# Altium schematic symbol library MCU_ST_STM32L0.SchLib: 245 symbols (part 2 of 5)
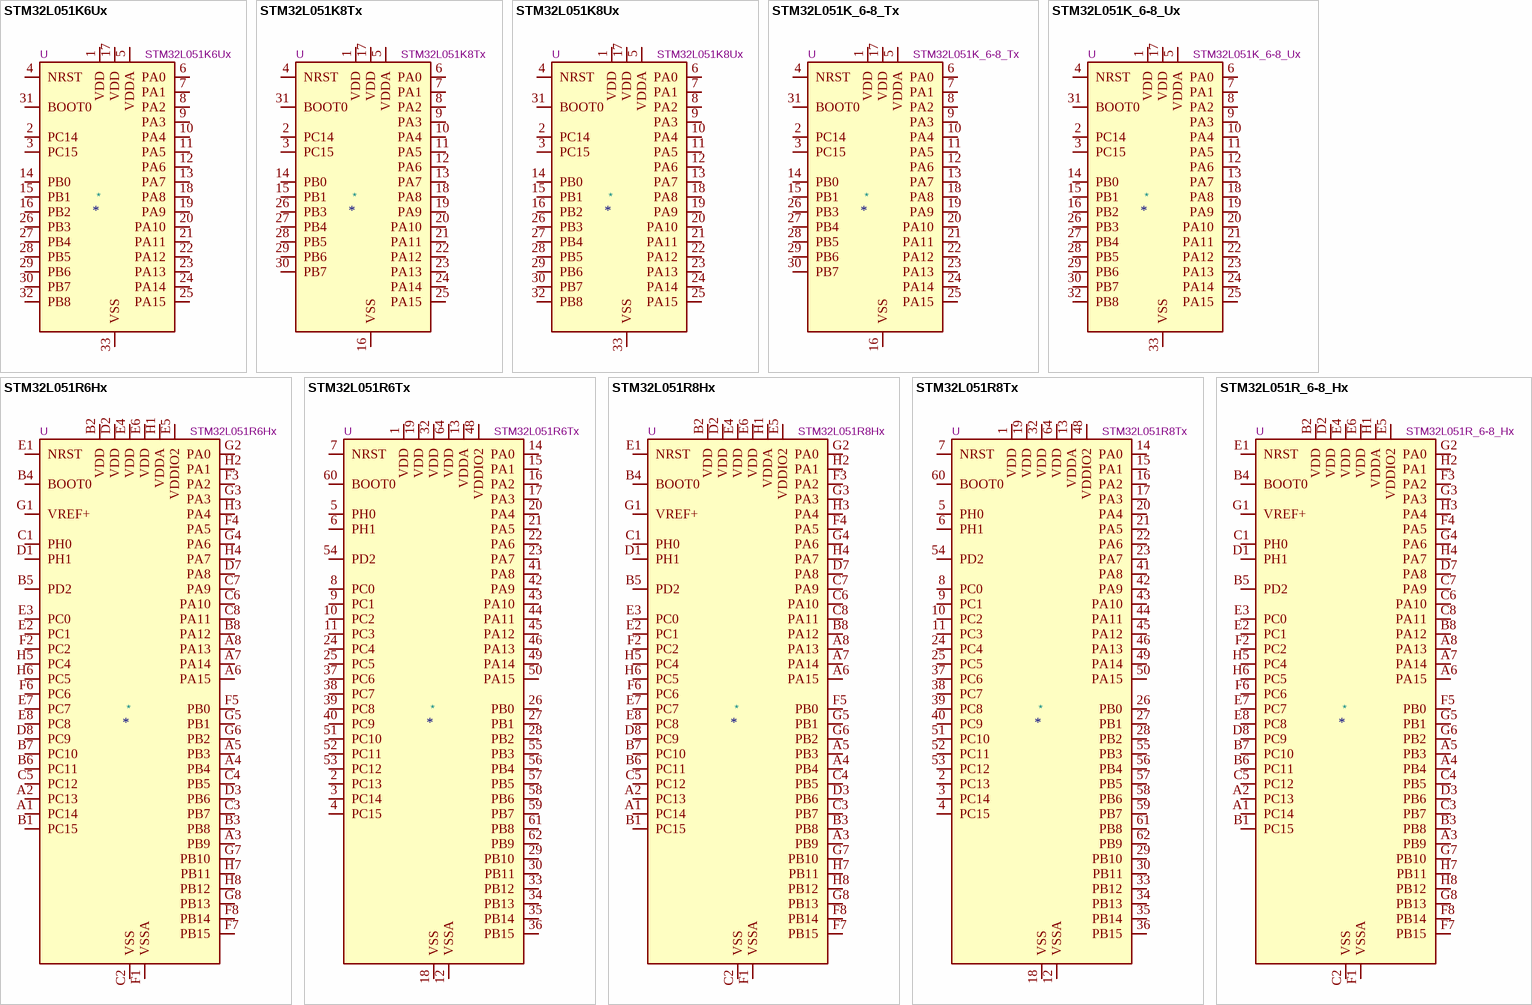
[diagram p23: symbols STM32L051K6Ux to STM32L051R_6-8_Hx]

## STM32L051K_6-8_Tx
designator *  value STM32L051K_6-8_Tx  Reference: U
ki_keywords: Arm Cortex-M0+ STM32L0 STM32L0x1; ki_description: STMicroelectronics Arm Cortex-M0+ MCU, 32-64KB flash, 8KB RAM, 32 MHz, 1.65-3.6V, 25 GPIO, LQFP32; ki_fp_filters: LQFP*7x7mm*P0.8mm*; Footprint: Package_QFP:LQFP-32_7x7mm_P0.8mm; Datasheet: https://www.st.com/resource/en/datasheet/stm32l051k6.pdf
pins: 1 VDD, 2 PC14, 3 PC15, 4 NRST, 5 VDDA, 6 PA0, 7 PA1, 8 PA2, 9 PA3, 10 PA4, 11 PA5, 12 PA6, 13 PA7, 14 PB0, 15 PB1, 16 VSS, 17 VDD, 18 PA8, 19 PA9, 20 PA10, 21 PA11, 22 PA12, 23 PA13, 24 PA14, 25 PA15, 26 PB3, 27 PB4, 28 PB5, 29 PB6, 30 PB7, 31 BOOT0, 32 VSS hidden

## STM32L051K_6-8_Ux
designator *  value STM32L051K_6-8_Ux  Reference: U
ki_keywords: Arm Cortex-M0+ STM32L0 STM32L0x1; ki_description: STMicroelectronics Arm Cortex-M0+ MCU, 32-64KB flash, 8KB RAM, 32 MHz, 1.65-3.6V, 27 GPIO, UFQFPN32; ki_fp_filters: QFN*1EP*5x5mm*P0.5mm*; Footprint: Package_DFN_QFN:QFN-32-1EP_5x5mm_P0.5mm_EP3.45x3.45mm; Datasheet: https://www.st.com/resource/en/datasheet/stm32l051k6.pdf
pins: 1 VDD, 2 PC14, 3 PC15, 4 NRST, 5 VDDA, 6 PA0, 7 PA1, 8 PA2, 9 PA3, 10 PA4, 11 PA5, 12 PA6, 13 PA7, 14 PB0, 15 PB1, 16 PB2, 17 VDD, 18 PA8, 19 PA9, 20 PA10, 21 PA11, 22 PA12, 23 PA13, 24 PA14, 25 PA15, 26 PB3, 27 PB4, 28 PB5, 29 PB6, 30 PB7, 31 BOOT0, 32 PB8, 33 VSS

## STM32L051R6Hx
designator *  value STM32L051R6Hx  Reference: U
ki_keywords: Arm Cortex-M0+ STM32L0 STM32L0x1; ki_description: STMicroelectronics Arm Cortex-M0+ MCU, 32KB flash, 8KB RAM, 32 MHz, 1.65-3.6V, 50 GPIO, TFBGA64; ki_fp_filters: TFBGA*5x5mm*Layout8x8*P0.5mm*; Footprint: Package_BGA:TFBGA-64_5x5mm_Layout8x8_P0.5mm; Datasheet: https://www.st.com/resource/en/datasheet/stm32l051r6.pdf
pins: A1 PC14, A2 PC13, A3 PB9, A4 PB4, A5 PB3, A6 PA15, A7 PA14, A8 PA13, B1 PC15, B2 VDD, B3 PB8, B4 BOOT0, B5 PD2, B6 PC11, B7 PC10, B8 PA12, C1 PH0, C2 VSS, C3 PB7, C4 PB5, C5 PC12, C6 PA10, C7 PA9, C8 PA11, D1 PH1, D2 VDD, D3 PB6, D4 VSS hidden, D5 VSS hidden, D6 VSS hidden, D7 PA8, D8 PC9, E1 NRST, E2 PC1, E3 PC0, E4 VDD, E5 VDDIO2, E6 VDD, E7 PC7, E8 PC8, F1 VSSA, F2 PC2, F3 PA2, F4 PA5, F5 PB0, F6 PC6, F7 PB15, F8 PB14, G1 VREF+, G2 PA0, G3 PA3, G4 PA6, G5 PB1, G6 PB2, G7 PB10, G8 PB13, H1 VDDA, H2 PA1, H3 PA4, H4 PA7, H5 PC4, H6 PC5, H7 PB11, H8 PB12

## STM32L051R6Tx
designator *  value STM32L051R6Tx  Reference: U
ki_keywords: Arm Cortex-M0+ STM32L0 STM32L0x1; ki_description: STMicroelectronics Arm Cortex-M0+ MCU, 32KB flash, 8KB RAM, 32 MHz, 1.65-3.6V, 51 GPIO, LQFP64; ki_fp_filters: LQFP*10x10mm*P0.5mm*; Footprint: Package_QFP:LQFP-64_10x10mm_P0.5mm; Datasheet: https://www.st.com/resource/en/datasheet/stm32l051r6.pdf
pins: 1 VDD, 2 PC13, 3 PC14, 4 PC15, 5 PH0, 6 PH1, 7 NRST, 8 PC0, 9 PC1, 10 PC2, 11 PC3, 12 VSSA, 13 VDDA, 14 PA0, 15 PA1, 16 PA2, 17 PA3, 18 VSS, 19 VDD, 20 PA4, 21 PA5, 22 PA6, 23 PA7, 24 PC4, 25 PC5, 26 PB0, 27 PB1, 28 PB2, 29 PB10, 30 PB11, 31 VSS hidden, 32 VDD, 33 PB12, 34 PB13, 35 PB14, 36 PB15, 37 PC6, 38 PC7, 39 PC8, 40 PC9, 41 PA8, 42 PA9, 43 PA10, 44 PA11, 45 PA12, 46 PA13, 47 VSS hidden, 48 VDDIO2, 49 PA14, 50 PA15, 51 PC10, 52 PC11, 53 PC12, 54 PD2, 55 PB3, 56 PB4, 57 PB5, 58 PB6, 59 PB7, 60 BOOT0, 61 PB8, 62 PB9, 63 VSS hidden, 64 VDD

## STM32L051R8Hx
designator *  value STM32L051R8Hx  Reference: U
ki_keywords: Arm Cortex-M0+ STM32L0 STM32L0x1; ki_description: STMicroelectronics Arm Cortex-M0+ MCU, 64KB flash, 8KB RAM, 32 MHz, 1.65-3.6V, 50 GPIO, TFBGA64; ki_fp_filters: TFBGA*5x5mm*Layout8x8*P0.5mm*; Footprint: Package_BGA:TFBGA-64_5x5mm_Layout8x8_P0.5mm; Datasheet: https://www.st.com/resource/en/datasheet/stm32l051r8.pdf
pins: A1 PC14, A2 PC13, A3 PB9, A4 PB4, A5 PB3, A6 PA15, A7 PA14, A8 PA13, B1 PC15, B2 VDD, B3 PB8, B4 BOOT0, B5 PD2, B6 PC11, B7 PC10, B8 PA12, C1 PH0, C2 VSS, C3 PB7, C4 PB5, C5 PC12, C6 PA10, C7 PA9, C8 PA11, D1 PH1, D2 VDD, D3 PB6, D4 VSS hidden, D5 VSS hidden, D6 VSS hidden, D7 PA8, D8 PC9, E1 NRST, E2 PC1, E3 PC0, E4 VDD, E5 VDDIO2, E6 VDD, E7 PC7, E8 PC8, F1 VSSA, F2 PC2, F3 PA2, F4 PA5, F5 PB0, F6 PC6, F7 PB15, F8 PB14, G1 VREF+, G2 PA0, G3 PA3, G4 PA6, G5 PB1, G6 PB2, G7 PB10, G8 PB13, H1 VDDA, H2 PA1, H3 PA4, H4 PA7, H5 PC4, H6 PC5, H7 PB11, H8 PB12

## STM32L051R8Tx
designator *  value STM32L051R8Tx  Reference: U
ki_keywords: Arm Cortex-M0+ STM32L0 STM32L0x1; ki_description: STMicroelectronics Arm Cortex-M0+ MCU, 64KB flash, 8KB RAM, 32 MHz, 1.65-3.6V, 51 GPIO, LQFP64; ki_fp_filters: LQFP*10x10mm*P0.5mm*; Footprint: Package_QFP:LQFP-64_10x10mm_P0.5mm; Datasheet: https://www.st.com/resource/en/datasheet/stm32l051r8.pdf
pins: 1 VDD, 2 PC13, 3 PC14, 4 PC15, 5 PH0, 6 PH1, 7 NRST, 8 PC0, 9 PC1, 10 PC2, 11 PC3, 12 VSSA, 13 VDDA, 14 PA0, 15 PA1, 16 PA2, 17 PA3, 18 VSS, 19 VDD, 20 PA4, 21 PA5, 22 PA6, 23 PA7, 24 PC4, 25 PC5, 26 PB0, 27 PB1, 28 PB2, 29 PB10, 30 PB11, 31 VSS hidden, 32 VDD, 33 PB12, 34 PB13, 35 PB14, 36 PB15, 37 PC6, 38 PC7, 39 PC8, 40 PC9, 41 PA8, 42 PA9, 43 PA10, 44 PA11, 45 PA12, 46 PA13, 47 VSS hidden, 48 VDDIO2, 49 PA14, 50 PA15, 51 PC10, 52 PC11, 53 PC12, 54 PD2, 55 PB3, 56 PB4, 57 PB5, 58 PB6, 59 PB7, 60 BOOT0, 61 PB8, 62 PB9, 63 VSS hidden, 64 VDD

## STM32L051R_6-8_Hx
designator *  value STM32L051R_6-8_Hx  Reference: U
ki_keywords: Arm Cortex-M0+ STM32L0 STM32L0x1; ki_description: STMicroelectronics Arm Cortex-M0+ MCU, 32-64KB flash, 8KB RAM, 32 MHz, 1.65-3.6V, 50 GPIO, TFBGA64; ki_fp_filters: TFBGA*5x5mm*Layout8x8*P0.5mm*; Footprint: Package_BGA:TFBGA-64_5x5mm_Layout8x8_P0.5mm; Datasheet: https://www.st.com/resource/en/datasheet/stm32l051r6.pdf
pins: A1 PC14, A2 PC13, A3 PB9, A4 PB4, A5 PB3, A6 PA15, A7 PA14, A8 PA13, B1 PC15, B2 VDD, B3 PB8, B4 BOOT0, B5 PD2, B6 PC11, B7 PC10, B8 PA12, C1 PH0, C2 VSS, C3 PB7, C4 PB5, C5 PC12, C6 PA10, C7 PA9, C8 PA11, D1 PH1, D2 VDD, D3 PB6, D4 VSS hidden, D5 VSS hidden, D6 VSS hidden, D7 PA8, D8 PC9, E1 NRST, E2 PC1, E3 PC0, E4 VDD, E5 VDDIO2, E6 VDD, E7 PC7, E8 PC8, F1 VSSA, F2 PC2, F3 PA2, F4 PA5, F5 PB0, F6 PC6, F7 PB15, F8 PB14, G1 VREF+, G2 PA0, G3 PA3, G4 PA6, G5 PB1, G6 PB2, G7 PB10, G8 PB13, H1 VDDA, H2 PA1, H3 PA4, H4 PA7, H5 PC4, H6 PC5, H7 PB11, H8 PB12

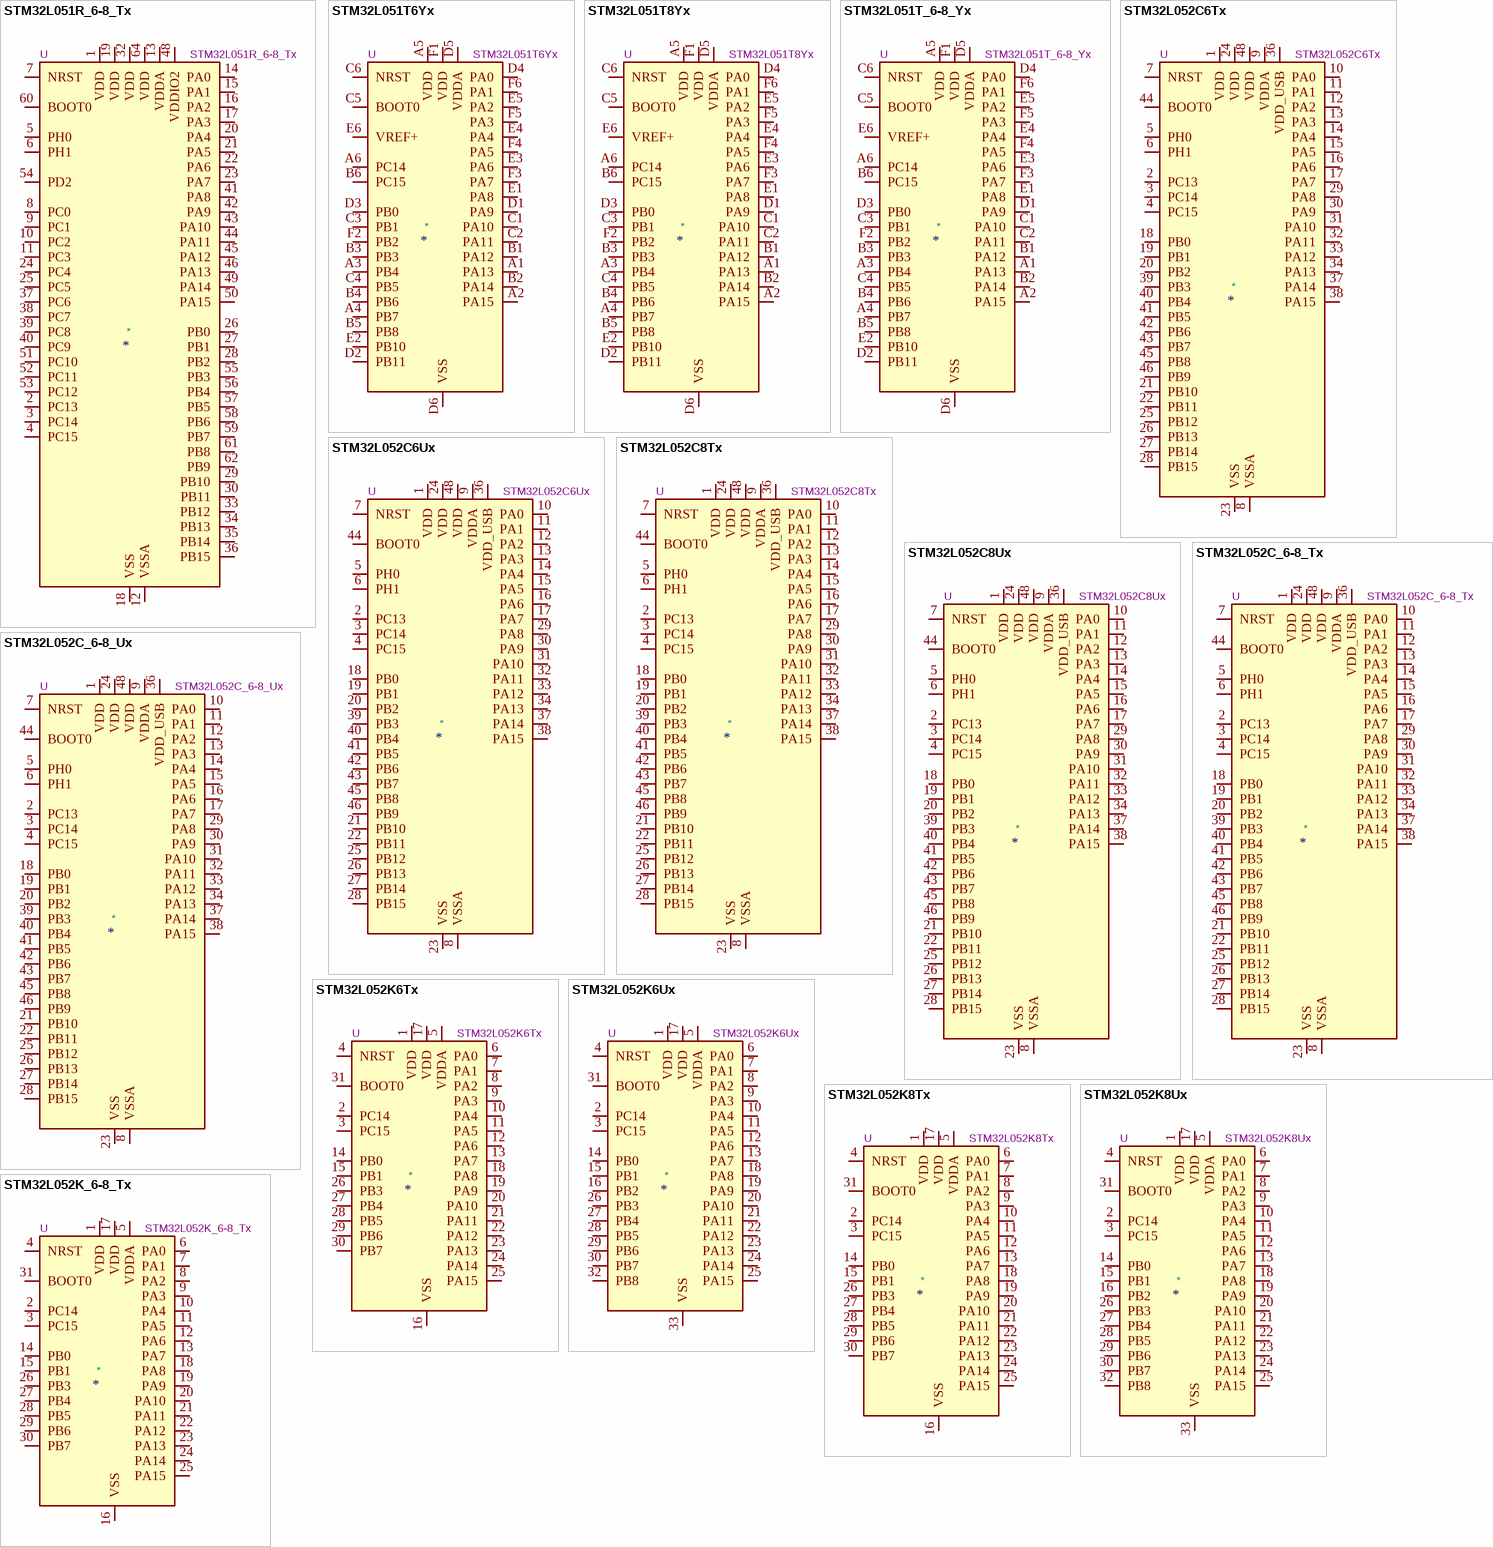
[diagram p5: symbols STM32L051R_6-8_Tx to STM32L052K_6-8_Tx]

## STM32L051R_6-8_Tx
designator *  value STM32L051R_6-8_Tx  Reference: U
ki_keywords: Arm Cortex-M0+ STM32L0 STM32L0x1; ki_description: STMicroelectronics Arm Cortex-M0+ MCU, 32-64KB flash, 8KB RAM, 32 MHz, 1.65-3.6V, 51 GPIO, LQFP64; ki_fp_filters: LQFP*10x10mm*P0.5mm*; Footprint: Package_QFP:LQFP-64_10x10mm_P0.5mm; Datasheet: https://www.st.com/resource/en/datasheet/stm32l051r6.pdf
pins: 1 VDD, 2 PC13, 3 PC14, 4 PC15, 5 PH0, 6 PH1, 7 NRST, 8 PC0, 9 PC1, 10 PC2, 11 PC3, 12 VSSA, 13 VDDA, 14 PA0, 15 PA1, 16 PA2, 17 PA3, 18 VSS, 19 VDD, 20 PA4, 21 PA5, 22 PA6, 23 PA7, 24 PC4, 25 PC5, 26 PB0, 27 PB1, 28 PB2, 29 PB10, 30 PB11, 31 VSS hidden, 32 VDD, 33 PB12, 34 PB13, 35 PB14, 36 PB15, 37 PC6, 38 PC7, 39 PC8, 40 PC9, 41 PA8, 42 PA9, 43 PA10, 44 PA11, 45 PA12, 46 PA13, 47 VSS hidden, 48 VDDIO2, 49 PA14, 50 PA15, 51 PC10, 52 PC11, 53 PC12, 54 PD2, 55 PB3, 56 PB4, 57 PB5, 58 PB6, 59 PB7, 60 BOOT0, 61 PB8, 62 PB9, 63 VSS hidden, 64 VDD

## STM32L051T6Yx
designator *  value STM32L051T6Yx  Reference: U
ki_keywords: Arm Cortex-M0+ STM32L0 STM32L0x1; ki_description: STMicroelectronics Arm Cortex-M0+ MCU, 32KB flash, 8KB RAM, 32 MHz, 1.65-3.6V, 29 GPIO, WLCSP36; ki_fp_filters: ST*WLCSP*Die417*; Footprint: Package_CSP:ST_WLCSP-36_Die417; Datasheet: https://www.st.com/resource/en/datasheet/stm32l051t6.pdf
pins: A1 PA13, A2 PA15, A3 PB4, A4 PB7, A5 VDD, A6 PC14, B1 PA12, B2 PA14, B3 PB3, B4 PB6, B5 PB8, B6 PC15, C1 PA10, C2 PA11, C3 PB1, C4 PB5, C5 BOOT0, C6 NRST, D1 PA9, D2 PB11, D3 PB0, D4 PA0, D5 VDDA, D6 VSS, E1 PA8, E2 PB10, E3 PA6, E4 PA4, E5 PA2, E6 VREF+, F1 VDD, F2 PB2, F3 PA7, F4 PA5, F5 PA3, F6 PA1

## STM32L051T8Yx
designator *  value STM32L051T8Yx  Reference: U
ki_keywords: Arm Cortex-M0+ STM32L0 STM32L0x1; ki_description: STMicroelectronics Arm Cortex-M0+ MCU, 64KB flash, 8KB RAM, 32 MHz, 1.65-3.6V, 29 GPIO, WLCSP36; ki_fp_filters: ST*WLCSP*Die417*; Footprint: Package_CSP:ST_WLCSP-36_Die417; Datasheet: https://www.st.com/resource/en/datasheet/stm32l051t8.pdf
pins: A1 PA13, A2 PA15, A3 PB4, A4 PB7, A5 VDD, A6 PC14, B1 PA12, B2 PA14, B3 PB3, B4 PB6, B5 PB8, B6 PC15, C1 PA10, C2 PA11, C3 PB1, C4 PB5, C5 BOOT0, C6 NRST, D1 PA9, D2 PB11, D3 PB0, D4 PA0, D5 VDDA, D6 VSS, E1 PA8, E2 PB10, E3 PA6, E4 PA4, E5 PA2, E6 VREF+, F1 VDD, F2 PB2, F3 PA7, F4 PA5, F5 PA3, F6 PA1

## STM32L051T_6-8_Yx
designator *  value STM32L051T_6-8_Yx  Reference: U
ki_keywords: Arm Cortex-M0+ STM32L0 STM32L0x1; ki_description: STMicroelectronics Arm Cortex-M0+ MCU, 32-64KB flash, 8KB RAM, 32 MHz, 1.65-3.6V, 29 GPIO, WLCSP36; ki_fp_filters: ST*WLCSP*Die417*; Footprint: Package_CSP:ST_WLCSP-36_Die417; Datasheet: https://www.st.com/resource/en/datasheet/stm32l051t6.pdf
pins: A1 PA13, A2 PA15, A3 PB4, A4 PB7, A5 VDD, A6 PC14, B1 PA12, B2 PA14, B3 PB3, B4 PB6, B5 PB8, B6 PC15, C1 PA10, C2 PA11, C3 PB1, C4 PB5, C5 BOOT0, C6 NRST, D1 PA9, D2 PB11, D3 PB0, D4 PA0, D5 VDDA, D6 VSS, E1 PA8, E2 PB10, E3 PA6, E4 PA4, E5 PA2, E6 VREF+, F1 VDD, F2 PB2, F3 PA7, F4 PA5, F5 PA3, F6 PA1

## STM32L052C6Tx
designator *  value STM32L052C6Tx  Reference: U
ki_keywords: Arm Cortex-M0+ STM32L0 STM32L0x2; ki_description: STMicroelectronics Arm Cortex-M0+ MCU, 32KB flash, 8KB RAM, 32 MHz, 1.65-3.6V, 37 GPIO, LQFP48; ki_fp_filters: LQFP*7x7mm*P0.5mm*; Footprint: Package_QFP:LQFP-48_7x7mm_P0.5mm; Datasheet: https://www.st.com/resource/en/datasheet/stm32l052c6.pdf
pins: 1 VDD, 2 PC13, 3 PC14, 4 PC15, 5 PH0, 6 PH1, 7 NRST, 8 VSSA, 9 VDDA, 10 PA0, 11 PA1, 12 PA2, 13 PA3, 14 PA4, 15 PA5, 16 PA6, 17 PA7, 18 PB0, 19 PB1, 20 PB2, 21 PB10, 22 PB11, 23 VSS, 24 VDD, 25 PB12, 26 PB13, 27 PB14, 28 PB15, 29 PA8, 30 PA9, 31 PA10, 32 PA11, 33 PA12, 34 PA13, 35 VSS hidden, 36 VDD_USB, 37 PA14, 38 PA15, 39 PB3, 40 PB4, 41 PB5, 42 PB6, 43 PB7, 44 BOOT0, 45 PB8, 46 PB9, 47 VSS hidden, 48 VDD

## STM32L052C6Ux
designator *  value STM32L052C6Ux  Reference: U
ki_keywords: Arm Cortex-M0+ STM32L0 STM32L0x2; ki_description: STMicroelectronics Arm Cortex-M0+ MCU, 32KB flash, 8KB RAM, 32 MHz, 1.65-3.6V, 37 GPIO, UFQFPN48; ki_fp_filters: QFN*1EP*7x7mm*P0.5mm*; Footprint: Package_DFN_QFN:QFN-48-1EP_7x7mm_P0.5mm_EP5.6x5.6mm; Datasheet: https://www.st.com/resource/en/datasheet/stm32l052c6.pdf
pins: 1 VDD, 2 PC13, 3 PC14, 4 PC15, 5 PH0, 6 PH1, 7 NRST, 8 VSSA, 9 VDDA, 10 PA0, 11 PA1, 12 PA2, 13 PA3, 14 PA4, 15 PA5, 16 PA6, 17 PA7, 18 PB0, 19 PB1, 20 PB2, 21 PB10, 22 PB11, 23 VSS, 24 VDD, 25 PB12, 26 PB13, 27 PB14, 28 PB15, 29 PA8, 30 PA9, 31 PA10, 32 PA11, 33 PA12, 34 PA13, 35 VSS hidden, 36 VDD_USB, 37 PA14, 38 PA15, 39 PB3, 40 PB4, 41 PB5, 42 PB6, 43 PB7, 44 BOOT0, 45 PB8, 46 PB9, 47 VSS hidden, 48 VDD, 49 VSS hidden

## STM32L052C8Tx
designator *  value STM32L052C8Tx  Reference: U
ki_keywords: Arm Cortex-M0+ STM32L0 STM32L0x2; ki_description: STMicroelectronics Arm Cortex-M0+ MCU, 64KB flash, 8KB RAM, 32 MHz, 1.65-3.6V, 37 GPIO, LQFP48; ki_fp_filters: LQFP*7x7mm*P0.5mm*; Footprint: Package_QFP:LQFP-48_7x7mm_P0.5mm; Datasheet: https://www.st.com/resource/en/datasheet/stm32l052c8.pdf
pins: 1 VDD, 2 PC13, 3 PC14, 4 PC15, 5 PH0, 6 PH1, 7 NRST, 8 VSSA, 9 VDDA, 10 PA0, 11 PA1, 12 PA2, 13 PA3, 14 PA4, 15 PA5, 16 PA6, 17 PA7, 18 PB0, 19 PB1, 20 PB2, 21 PB10, 22 PB11, 23 VSS, 24 VDD, 25 PB12, 26 PB13, 27 PB14, 28 PB15, 29 PA8, 30 PA9, 31 PA10, 32 PA11, 33 PA12, 34 PA13, 35 VSS hidden, 36 VDD_USB, 37 PA14, 38 PA15, 39 PB3, 40 PB4, 41 PB5, 42 PB6, 43 PB7, 44 BOOT0, 45 PB8, 46 PB9, 47 VSS hidden, 48 VDD

## STM32L052C8Ux
designator *  value STM32L052C8Ux  Reference: U
ki_keywords: Arm Cortex-M0+ STM32L0 STM32L0x2; ki_description: STMicroelectronics Arm Cortex-M0+ MCU, 64KB flash, 8KB RAM, 32 MHz, 1.65-3.6V, 37 GPIO, UFQFPN48; ki_fp_filters: QFN*1EP*7x7mm*P0.5mm*; Footprint: Package_DFN_QFN:QFN-48-1EP_7x7mm_P0.5mm_EP5.6x5.6mm; Datasheet: https://www.st.com/resource/en/datasheet/stm32l052c8.pdf
pins: 1 VDD, 2 PC13, 3 PC14, 4 PC15, 5 PH0, 6 PH1, 7 NRST, 8 VSSA, 9 VDDA, 10 PA0, 11 PA1, 12 PA2, 13 PA3, 14 PA4, 15 PA5, 16 PA6, 17 PA7, 18 PB0, 19 PB1, 20 PB2, 21 PB10, 22 PB11, 23 VSS, 24 VDD, 25 PB12, 26 PB13, 27 PB14, 28 PB15, 29 PA8, 30 PA9, 31 PA10, 32 PA11, 33 PA12, 34 PA13, 35 VSS hidden, 36 VDD_USB, 37 PA14, 38 PA15, 39 PB3, 40 PB4, 41 PB5, 42 PB6, 43 PB7, 44 BOOT0, 45 PB8, 46 PB9, 47 VSS hidden, 48 VDD, 49 VSS hidden

## STM32L052C_6-8_Tx
designator *  value STM32L052C_6-8_Tx  Reference: U
ki_keywords: Arm Cortex-M0+ STM32L0 STM32L0x2; ki_description: STMicroelectronics Arm Cortex-M0+ MCU, 32-64KB flash, 8KB RAM, 32 MHz, 1.65-3.6V, 37 GPIO, LQFP48; ki_fp_filters: LQFP*7x7mm*P0.5mm*; Footprint: Package_QFP:LQFP-48_7x7mm_P0.5mm; Datasheet: https://www.st.com/resource/en/datasheet/stm32l052c6.pdf
pins: 1 VDD, 2 PC13, 3 PC14, 4 PC15, 5 PH0, 6 PH1, 7 NRST, 8 VSSA, 9 VDDA, 10 PA0, 11 PA1, 12 PA2, 13 PA3, 14 PA4, 15 PA5, 16 PA6, 17 PA7, 18 PB0, 19 PB1, 20 PB2, 21 PB10, 22 PB11, 23 VSS, 24 VDD, 25 PB12, 26 PB13, 27 PB14, 28 PB15, 29 PA8, 30 PA9, 31 PA10, 32 PA11, 33 PA12, 34 PA13, 35 VSS hidden, 36 VDD_USB, 37 PA14, 38 PA15, 39 PB3, 40 PB4, 41 PB5, 42 PB6, 43 PB7, 44 BOOT0, 45 PB8, 46 PB9, 47 VSS hidden, 48 VDD

## STM32L052C_6-8_Ux
designator *  value STM32L052C_6-8_Ux  Reference: U
ki_keywords: Arm Cortex-M0+ STM32L0 STM32L0x2; ki_description: STMicroelectronics Arm Cortex-M0+ MCU, 32-64KB flash, 8KB RAM, 32 MHz, 1.65-3.6V, 37 GPIO, UFQFPN48; ki_fp_filters: QFN*1EP*7x7mm*P0.5mm*; Footprint: Package_DFN_QFN:QFN-48-1EP_7x7mm_P0.5mm_EP5.6x5.6mm; Datasheet: https://www.st.com/resource/en/datasheet/stm32l052c6.pdf
pins: 1 VDD, 2 PC13, 3 PC14, 4 PC15, 5 PH0, 6 PH1, 7 NRST, 8 VSSA, 9 VDDA, 10 PA0, 11 PA1, 12 PA2, 13 PA3, 14 PA4, 15 PA5, 16 PA6, 17 PA7, 18 PB0, 19 PB1, 20 PB2, 21 PB10, 22 PB11, 23 VSS, 24 VDD, 25 PB12, 26 PB13, 27 PB14, 28 PB15, 29 PA8, 30 PA9, 31 PA10, 32 PA11, 33 PA12, 34 PA13, 35 VSS hidden, 36 VDD_USB, 37 PA14, 38 PA15, 39 PB3, 40 PB4, 41 PB5, 42 PB6, 43 PB7, 44 BOOT0, 45 PB8, 46 PB9, 47 VSS hidden, 48 VDD, 49 VSS hidden

## STM32L052K6Tx
designator *  value STM32L052K6Tx  Reference: U
ki_keywords: Arm Cortex-M0+ STM32L0 STM32L0x2; ki_description: STMicroelectronics Arm Cortex-M0+ MCU, 32KB flash, 8KB RAM, 32 MHz, 1.65-3.6V, 25 GPIO, LQFP32; ki_fp_filters: LQFP*7x7mm*P0.8mm*; Footprint: Package_QFP:LQFP-32_7x7mm_P0.8mm; Datasheet: https://www.st.com/resource/en/datasheet/stm32l052k6.pdf
pins: 1 VDD, 2 PC14, 3 PC15, 4 NRST, 5 VDDA, 6 PA0, 7 PA1, 8 PA2, 9 PA3, 10 PA4, 11 PA5, 12 PA6, 13 PA7, 14 PB0, 15 PB1, 16 VSS, 17 VDD, 18 PA8, 19 PA9, 20 PA10, 21 PA11, 22 PA12, 23 PA13, 24 PA14, 25 PA15, 26 PB3, 27 PB4, 28 PB5, 29 PB6, 30 PB7, 31 BOOT0, 32 VSS hidden

## STM32L052K6Ux
designator *  value STM32L052K6Ux  Reference: U
ki_keywords: Arm Cortex-M0+ STM32L0 STM32L0x2; ki_description: STMicroelectronics Arm Cortex-M0+ MCU, 32KB flash, 8KB RAM, 32 MHz, 1.65-3.6V, 27 GPIO, UFQFPN32; ki_fp_filters: QFN*1EP*5x5mm*P0.5mm*; Footprint: Package_DFN_QFN:QFN-32-1EP_5x5mm_P0.5mm_EP3.45x3.45mm; Datasheet: https://www.st.com/resource/en/datasheet/stm32l052k6.pdf
pins: 1 VDD, 2 PC14, 3 PC15, 4 NRST, 5 VDDA, 6 PA0, 7 PA1, 8 PA2, 9 PA3, 10 PA4, 11 PA5, 12 PA6, 13 PA7, 14 PB0, 15 PB1, 16 PB2, 17 VDD, 18 PA8, 19 PA9, 20 PA10, 21 PA11, 22 PA12, 23 PA13, 24 PA14, 25 PA15, 26 PB3, 27 PB4, 28 PB5, 29 PB6, 30 PB7, 31 BOOT0, 32 PB8, 33 VSS

## STM32L052K8Tx
designator *  value STM32L052K8Tx  Reference: U
ki_keywords: Arm Cortex-M0+ STM32L0 STM32L0x2; ki_description: STMicroelectronics Arm Cortex-M0+ MCU, 64KB flash, 8KB RAM, 32 MHz, 1.65-3.6V, 25 GPIO, LQFP32; ki_fp_filters: LQFP*7x7mm*P0.8mm*; Footprint: Package_QFP:LQFP-32_7x7mm_P0.8mm; Datasheet: https://www.st.com/resource/en/datasheet/stm32l052k8.pdf
pins: 1 VDD, 2 PC14, 3 PC15, 4 NRST, 5 VDDA, 6 PA0, 7 PA1, 8 PA2, 9 PA3, 10 PA4, 11 PA5, 12 PA6, 13 PA7, 14 PB0, 15 PB1, 16 VSS, 17 VDD, 18 PA8, 19 PA9, 20 PA10, 21 PA11, 22 PA12, 23 PA13, 24 PA14, 25 PA15, 26 PB3, 27 PB4, 28 PB5, 29 PB6, 30 PB7, 31 BOOT0, 32 VSS hidden

## STM32L052K8Ux
designator *  value STM32L052K8Ux  Reference: U
ki_keywords: Arm Cortex-M0+ STM32L0 STM32L0x2; ki_description: STMicroelectronics Arm Cortex-M0+ MCU, 64KB flash, 8KB RAM, 32 MHz, 1.65-3.6V, 27 GPIO, UFQFPN32; ki_fp_filters: QFN*1EP*5x5mm*P0.5mm*; Footprint: Package_DFN_QFN:QFN-32-1EP_5x5mm_P0.5mm_EP3.45x3.45mm; Datasheet: https://www.st.com/resource/en/datasheet/stm32l052k8.pdf
pins: 1 VDD, 2 PC14, 3 PC15, 4 NRST, 5 VDDA, 6 PA0, 7 PA1, 8 PA2, 9 PA3, 10 PA4, 11 PA5, 12 PA6, 13 PA7, 14 PB0, 15 PB1, 16 PB2, 17 VDD, 18 PA8, 19 PA9, 20 PA10, 21 PA11, 22 PA12, 23 PA13, 24 PA14, 25 PA15, 26 PB3, 27 PB4, 28 PB5, 29 PB6, 30 PB7, 31 BOOT0, 32 PB8, 33 VSS

## STM32L052K_6-8_Tx
designator *  value STM32L052K_6-8_Tx  Reference: U
ki_keywords: Arm Cortex-M0+ STM32L0 STM32L0x2; ki_description: STMicroelectronics Arm Cortex-M0+ MCU, 32-64KB flash, 8KB RAM, 32 MHz, 1.65-3.6V, 25 GPIO, LQFP32; ki_fp_filters: LQFP*7x7mm*P0.8mm*; Footprint: Package_QFP:LQFP-32_7x7mm_P0.8mm; Datasheet: https://www.st.com/resource/en/datasheet/stm32l052k6.pdf
pins: 1 VDD, 2 PC14, 3 PC15, 4 NRST, 5 VDDA, 6 PA0, 7 PA1, 8 PA2, 9 PA3, 10 PA4, 11 PA5, 12 PA6, 13 PA7, 14 PB0, 15 PB1, 16 VSS, 17 VDD, 18 PA8, 19 PA9, 20 PA10, 21 PA11, 22 PA12, 23 PA13, 24 PA14, 25 PA15, 26 PB3, 27 PB4, 28 PB5, 29 PB6, 30 PB7, 31 BOOT0, 32 VSS hidden

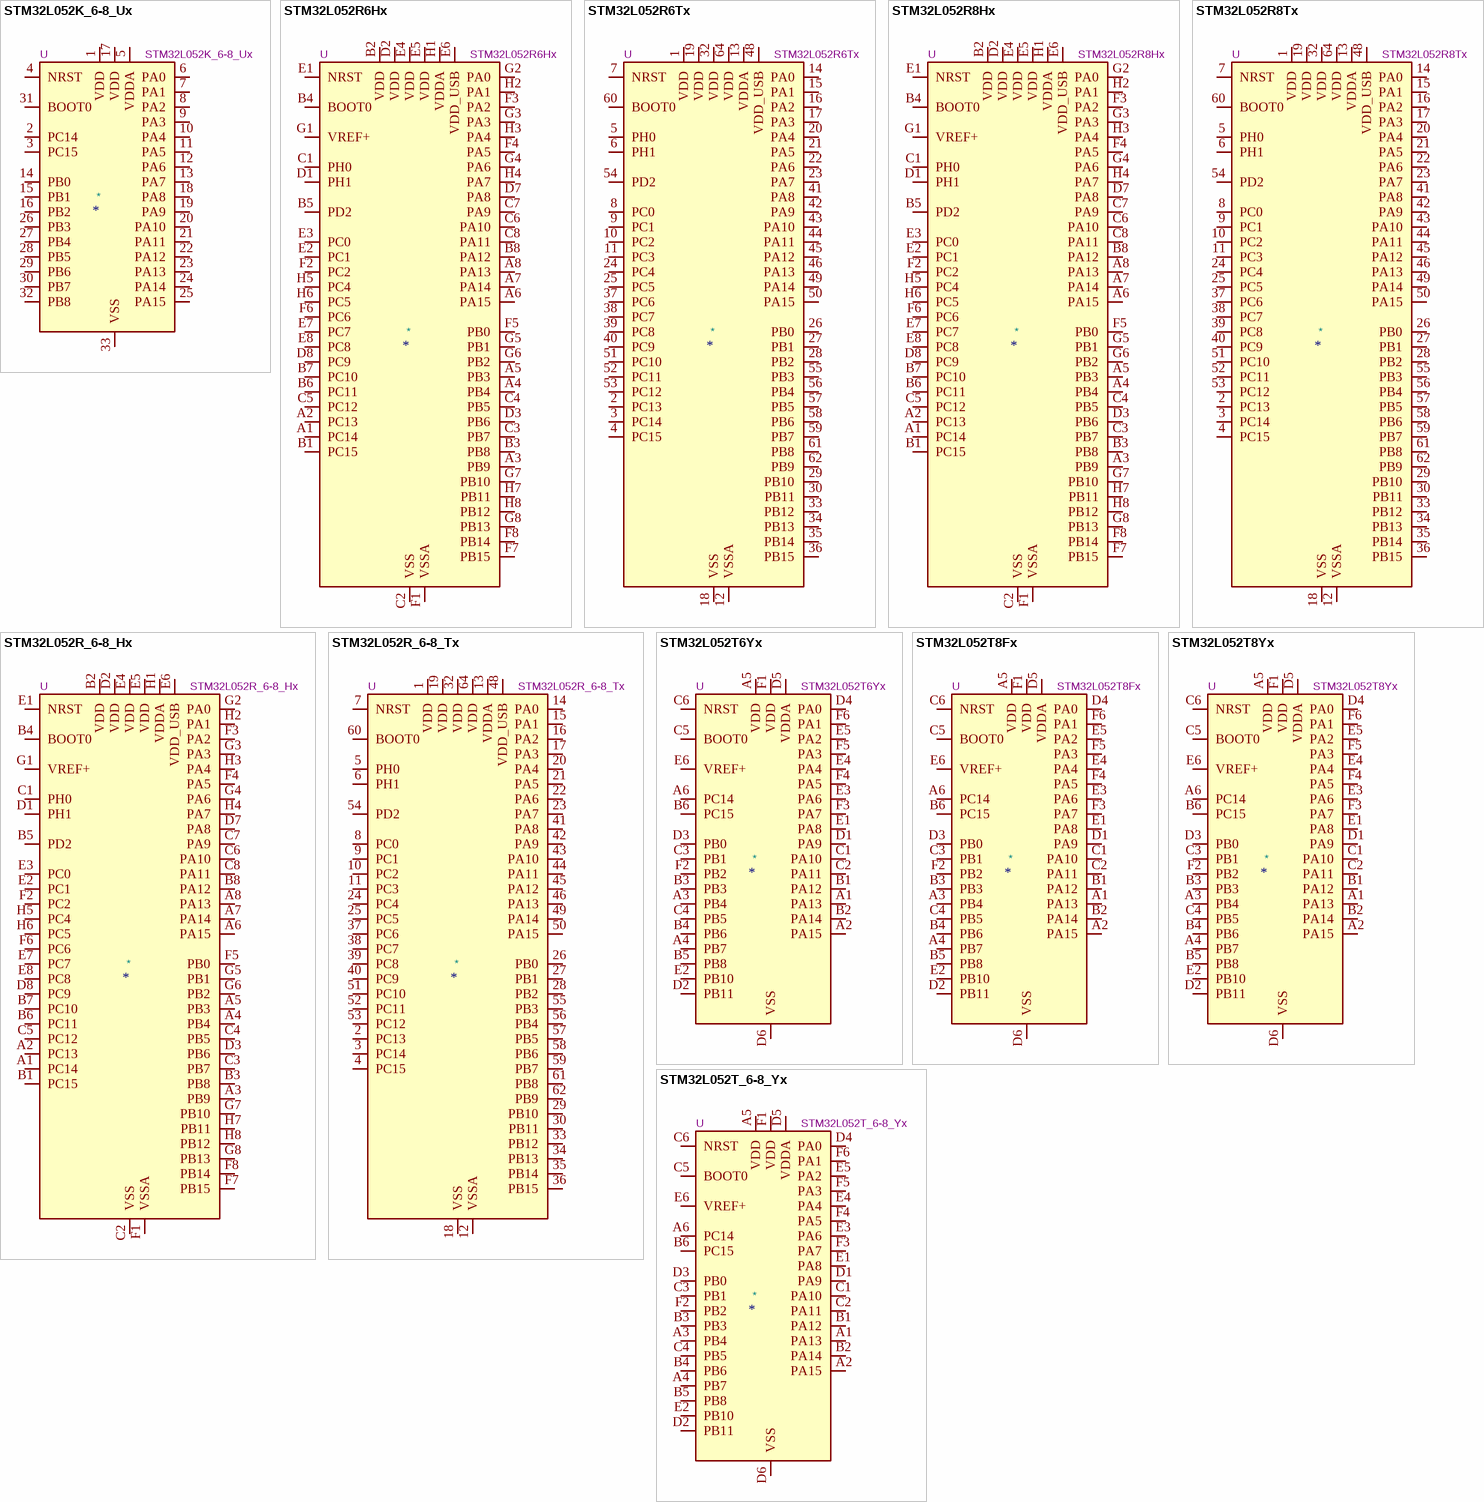
[diagram p6: symbols STM32L052K_6-8_Ux to STM32L052T_6-8_Yx]

## STM32L052K_6-8_Ux
designator *  value STM32L052K_6-8_Ux  Reference: U
ki_keywords: Arm Cortex-M0+ STM32L0 STM32L0x2; ki_description: STMicroelectronics Arm Cortex-M0+ MCU, 32-64KB flash, 8KB RAM, 32 MHz, 1.65-3.6V, 27 GPIO, UFQFPN32; ki_fp_filters: QFN*1EP*5x5mm*P0.5mm*; Footprint: Package_DFN_QFN:QFN-32-1EP_5x5mm_P0.5mm_EP3.45x3.45mm; Datasheet: https://www.st.com/resource/en/datasheet/stm32l052k6.pdf
pins: 1 VDD, 2 PC14, 3 PC15, 4 NRST, 5 VDDA, 6 PA0, 7 PA1, 8 PA2, 9 PA3, 10 PA4, 11 PA5, 12 PA6, 13 PA7, 14 PB0, 15 PB1, 16 PB2, 17 VDD, 18 PA8, 19 PA9, 20 PA10, 21 PA11, 22 PA12, 23 PA13, 24 PA14, 25 PA15, 26 PB3, 27 PB4, 28 PB5, 29 PB6, 30 PB7, 31 BOOT0, 32 PB8, 33 VSS

## STM32L052R6Hx
designator *  value STM32L052R6Hx  Reference: U
ki_keywords: Arm Cortex-M0+ STM32L0 STM32L0x2; ki_description: STMicroelectronics Arm Cortex-M0+ MCU, 32KB flash, 8KB RAM, 32 MHz, 1.65-3.6V, 50 GPIO, TFBGA64; ki_fp_filters: TFBGA*5x5mm*Layout8x8*P0.5mm*; Footprint: Package_BGA:TFBGA-64_5x5mm_Layout8x8_P0.5mm; Datasheet: https://www.st.com/resource/en/datasheet/stm32l052r6.pdf
pins: A1 PC14, A2 PC13, A3 PB9, A4 PB4, A5 PB3, A6 PA15, A7 PA14, A8 PA13, B1 PC15, B2 VDD, B3 PB8, B4 BOOT0, B5 PD2, B6 PC11, B7 PC10, B8 PA12, C1 PH0, C2 VSS, C3 PB7, C4 PB5, C5 PC12, C6 PA10, C7 PA9, C8 PA11, D1 PH1, D2 VDD, D3 PB6, D4 VSS hidden, D5 VSS hidden, D6 VSS hidden, D7 PA8, D8 PC9, E1 NRST, E2 PC1, E3 PC0, E4 VDD, E5 VDD, E6 VDD_USB, E7 PC7, E8 PC8, F1 VSSA, F2 PC2, F3 PA2, F4 PA5, F5 PB0, F6 PC6, F7 PB15, F8 PB14, G1 VREF+, G2 PA0, G3 PA3, G4 PA6, G5 PB1, G6 PB2, G7 PB10, G8 PB13, H1 VDDA, H2 PA1, H3 PA4, H4 PA7, H5 PC4, H6 PC5, H7 PB11, H8 PB12

## STM32L052R6Tx
designator *  value STM32L052R6Tx  Reference: U
ki_keywords: Arm Cortex-M0+ STM32L0 STM32L0x2; ki_description: STMicroelectronics Arm Cortex-M0+ MCU, 32KB flash, 8KB RAM, 32 MHz, 1.65-3.6V, 51 GPIO, LQFP64; ki_fp_filters: LQFP*10x10mm*P0.5mm*; Footprint: Package_QFP:LQFP-64_10x10mm_P0.5mm; Datasheet: https://www.st.com/resource/en/datasheet/stm32l052r6.pdf
pins: 1 VDD, 2 PC13, 3 PC14, 4 PC15, 5 PH0, 6 PH1, 7 NRST, 8 PC0, 9 PC1, 10 PC2, 11 PC3, 12 VSSA, 13 VDDA, 14 PA0, 15 PA1, 16 PA2, 17 PA3, 18 VSS, 19 VDD, 20 PA4, 21 PA5, 22 PA6, 23 PA7, 24 PC4, 25 PC5, 26 PB0, 27 PB1, 28 PB2, 29 PB10, 30 PB11, 31 VSS hidden, 32 VDD, 33 PB12, 34 PB13, 35 PB14, 36 PB15, 37 PC6, 38 PC7, 39 PC8, 40 PC9, 41 PA8, 42 PA9, 43 PA10, 44 PA11, 45 PA12, 46 PA13, 47 VSS hidden, 48 VDD_USB, 49 PA14, 50 PA15, 51 PC10, 52 PC11, 53 PC12, 54 PD2, 55 PB3, 56 PB4, 57 PB5, 58 PB6, 59 PB7, 60 BOOT0, 61 PB8, 62 PB9, 63 VSS hidden, 64 VDD

## STM32L052R8Hx
designator *  value STM32L052R8Hx  Reference: U
ki_keywords: Arm Cortex-M0+ STM32L0 STM32L0x2; ki_description: STMicroelectronics Arm Cortex-M0+ MCU, 64KB flash, 8KB RAM, 32 MHz, 1.65-3.6V, 50 GPIO, TFBGA64; ki_fp_filters: TFBGA*5x5mm*Layout8x8*P0.5mm*; Footprint: Package_BGA:TFBGA-64_5x5mm_Layout8x8_P0.5mm; Datasheet: https://www.st.com/resource/en/datasheet/stm32l052r8.pdf
pins: A1 PC14, A2 PC13, A3 PB9, A4 PB4, A5 PB3, A6 PA15, A7 PA14, A8 PA13, B1 PC15, B2 VDD, B3 PB8, B4 BOOT0, B5 PD2, B6 PC11, B7 PC10, B8 PA12, C1 PH0, C2 VSS, C3 PB7, C4 PB5, C5 PC12, C6 PA10, C7 PA9, C8 PA11, D1 PH1, D2 VDD, D3 PB6, D4 VSS hidden, D5 VSS hidden, D6 VSS hidden, D7 PA8, D8 PC9, E1 NRST, E2 PC1, E3 PC0, E4 VDD, E5 VDD, E6 VDD_USB, E7 PC7, E8 PC8, F1 VSSA, F2 PC2, F3 PA2, F4 PA5, F5 PB0, F6 PC6, F7 PB15, F8 PB14, G1 VREF+, G2 PA0, G3 PA3, G4 PA6, G5 PB1, G6 PB2, G7 PB10, G8 PB13, H1 VDDA, H2 PA1, H3 PA4, H4 PA7, H5 PC4, H6 PC5, H7 PB11, H8 PB12

## STM32L052R8Tx
designator *  value STM32L052R8Tx  Reference: U
ki_keywords: Arm Cortex-M0+ STM32L0 STM32L0x2; ki_description: STMicroelectronics Arm Cortex-M0+ MCU, 64KB flash, 8KB RAM, 32 MHz, 1.65-3.6V, 51 GPIO, LQFP64; ki_fp_filters: LQFP*10x10mm*P0.5mm*; Footprint: Package_QFP:LQFP-64_10x10mm_P0.5mm; Datasheet: https://www.st.com/resource/en/datasheet/stm32l052r8.pdf
pins: 1 VDD, 2 PC13, 3 PC14, 4 PC15, 5 PH0, 6 PH1, 7 NRST, 8 PC0, 9 PC1, 10 PC2, 11 PC3, 12 VSSA, 13 VDDA, 14 PA0, 15 PA1, 16 PA2, 17 PA3, 18 VSS, 19 VDD, 20 PA4, 21 PA5, 22 PA6, 23 PA7, 24 PC4, 25 PC5, 26 PB0, 27 PB1, 28 PB2, 29 PB10, 30 PB11, 31 VSS hidden, 32 VDD, 33 PB12, 34 PB13, 35 PB14, 36 PB15, 37 PC6, 38 PC7, 39 PC8, 40 PC9, 41 PA8, 42 PA9, 43 PA10, 44 PA11, 45 PA12, 46 PA13, 47 VSS hidden, 48 VDD_USB, 49 PA14, 50 PA15, 51 PC10, 52 PC11, 53 PC12, 54 PD2, 55 PB3, 56 PB4, 57 PB5, 58 PB6, 59 PB7, 60 BOOT0, 61 PB8, 62 PB9, 63 VSS hidden, 64 VDD

## STM32L052R_6-8_Hx
designator *  value STM32L052R_6-8_Hx  Reference: U
ki_keywords: Arm Cortex-M0+ STM32L0 STM32L0x2; ki_description: STMicroelectronics Arm Cortex-M0+ MCU, 32-64KB flash, 8KB RAM, 32 MHz, 1.65-3.6V, 50 GPIO, TFBGA64; ki_fp_filters: TFBGA*5x5mm*Layout8x8*P0.5mm*; Footprint: Package_BGA:TFBGA-64_5x5mm_Layout8x8_P0.5mm; Datasheet: https://www.st.com/resource/en/datasheet/stm32l052r6.pdf
pins: A1 PC14, A2 PC13, A3 PB9, A4 PB4, A5 PB3, A6 PA15, A7 PA14, A8 PA13, B1 PC15, B2 VDD, B3 PB8, B4 BOOT0, B5 PD2, B6 PC11, B7 PC10, B8 PA12, C1 PH0, C2 VSS, C3 PB7, C4 PB5, C5 PC12, C6 PA10, C7 PA9, C8 PA11, D1 PH1, D2 VDD, D3 PB6, D4 VSS hidden, D5 VSS hidden, D6 VSS hidden, D7 PA8, D8 PC9, E1 NRST, E2 PC1, E3 PC0, E4 VDD, E5 VDD, E6 VDD_USB, E7 PC7, E8 PC8, F1 VSSA, F2 PC2, F3 PA2, F4 PA5, F5 PB0, F6 PC6, F7 PB15, F8 PB14, G1 VREF+, G2 PA0, G3 PA3, G4 PA6, G5 PB1, G6 PB2, G7 PB10, G8 PB13, H1 VDDA, H2 PA1, H3 PA4, H4 PA7, H5 PC4, H6 PC5, H7 PB11, H8 PB12

## STM32L052R_6-8_Tx
designator *  value STM32L052R_6-8_Tx  Reference: U
ki_keywords: Arm Cortex-M0+ STM32L0 STM32L0x2; ki_description: STMicroelectronics Arm Cortex-M0+ MCU, 32-64KB flash, 8KB RAM, 32 MHz, 1.65-3.6V, 51 GPIO, LQFP64; ki_fp_filters: LQFP*10x10mm*P0.5mm*; Footprint: Package_QFP:LQFP-64_10x10mm_P0.5mm; Datasheet: https://www.st.com/resource/en/datasheet/stm32l052r6.pdf
pins: 1 VDD, 2 PC13, 3 PC14, 4 PC15, 5 PH0, 6 PH1, 7 NRST, 8 PC0, 9 PC1, 10 PC2, 11 PC3, 12 VSSA, 13 VDDA, 14 PA0, 15 PA1, 16 PA2, 17 PA3, 18 VSS, 19 VDD, 20 PA4, 21 PA5, 22 PA6, 23 PA7, 24 PC4, 25 PC5, 26 PB0, 27 PB1, 28 PB2, 29 PB10, 30 PB11, 31 VSS hidden, 32 VDD, 33 PB12, 34 PB13, 35 PB14, 36 PB15, 37 PC6, 38 PC7, 39 PC8, 40 PC9, 41 PA8, 42 PA9, 43 PA10, 44 PA11, 45 PA12, 46 PA13, 47 VSS hidden, 48 VDD_USB, 49 PA14, 50 PA15, 51 PC10, 52 PC11, 53 PC12, 54 PD2, 55 PB3, 56 PB4, 57 PB5, 58 PB6, 59 PB7, 60 BOOT0, 61 PB8, 62 PB9, 63 VSS hidden, 64 VDD

## STM32L052T6Yx
designator *  value STM32L052T6Yx  Reference: U
ki_keywords: Arm Cortex-M0+ STM32L0 STM32L0x2; ki_description: STMicroelectronics Arm Cortex-M0+ MCU, 32KB flash, 8KB RAM, 32 MHz, 1.65-3.6V, 29 GPIO, WLCSP36; ki_fp_filters: ST*WLCSP*Die417*; Footprint: Package_CSP:ST_WLCSP-36_Die417; Datasheet: https://www.st.com/resource/en/datasheet/stm32l052t6.pdf
pins: A1 PA13, A2 PA15, A3 PB4, A4 PB7, A5 VDD, A6 PC14, B1 PA12, B2 PA14, B3 PB3, B4 PB6, B5 PB8, B6 PC15, C1 PA10, C2 PA11, C3 PB1, C4 PB5, C5 BOOT0, C6 NRST, D1 PA9, D2 PB11, D3 PB0, D4 PA0, D5 VDDA, D6 VSS, E1 PA8, E2 PB10, E3 PA6, E4 PA4, E5 PA2, E6 VREF+, F1 VDD, F2 PB2, F3 PA7, F4 PA5, F5 PA3, F6 PA1

## STM32L052T8Fx
designator *  value STM32L052T8Fx  Reference: U
ki_keywords: Arm Cortex-M0+ STM32L0 STM32L0x2; ki_description: STMicroelectronics Arm Cortex-M0+ MCU, 64KB flash, 8KB RAM, 32 MHz, 1.65-3.6V, 29 GPIO, WLCSP36; ki_fp_filters: ST*WLCSP*Die417*; Footprint: Package_CSP:ST_WLCSP-36_Die417; Datasheet: https://www.st.com/resource/en/datasheet/stm32l052t8.pdf
pins: A1 PA13, A2 PA15, A3 PB4, A4 PB7, A5 VDD, A6 PC14, B1 PA12, B2 PA14, B3 PB3, B4 PB6, B5 PB8, B6 PC15, C1 PA10, C2 PA11, C3 PB1, C4 PB5, C5 BOOT0, C6 NRST, D1 PA9, D2 PB11, D3 PB0, D4 PA0, D5 VDDA, D6 VSS, E1 PA8, E2 PB10, E3 PA6, E4 PA4, E5 PA2, E6 VREF+, F1 VDD, F2 PB2, F3 PA7, F4 PA5, F5 PA3, F6 PA1

## STM32L052T8Yx
designator *  value STM32L052T8Yx  Reference: U
ki_keywords: Arm Cortex-M0+ STM32L0 STM32L0x2; ki_description: STMicroelectronics Arm Cortex-M0+ MCU, 64KB flash, 8KB RAM, 32 MHz, 1.65-3.6V, 29 GPIO, WLCSP36; ki_fp_filters: ST*WLCSP*Die417*; Footprint: Package_CSP:ST_WLCSP-36_Die417; Datasheet: https://www.st.com/resource/en/datasheet/stm32l052t8.pdf
pins: A1 PA13, A2 PA15, A3 PB4, A4 PB7, A5 VDD, A6 PC14, B1 PA12, B2 PA14, B3 PB3, B4 PB6, B5 PB8, B6 PC15, C1 PA10, C2 PA11, C3 PB1, C4 PB5, C5 BOOT0, C6 NRST, D1 PA9, D2 PB11, D3 PB0, D4 PA0, D5 VDDA, D6 VSS, E1 PA8, E2 PB10, E3 PA6, E4 PA4, E5 PA2, E6 VREF+, F1 VDD, F2 PB2, F3 PA7, F4 PA5, F5 PA3, F6 PA1

## STM32L052T_6-8_Yx
designator *  value STM32L052T_6-8_Yx  Reference: U
ki_keywords: Arm Cortex-M0+ STM32L0 STM32L0x2; ki_description: STMicroelectronics Arm Cortex-M0+ MCU, 32-64KB flash, 8KB RAM, 32 MHz, 1.65-3.6V, 29 GPIO, WLCSP36; ki_fp_filters: ST*WLCSP*Die417*; Footprint: Package_CSP:ST_WLCSP-36_Die417; Datasheet: https://www.st.com/resource/en/datasheet/stm32l052t6.pdf
pins: A1 PA13, A2 PA15, A3 PB4, A4 PB7, A5 VDD, A6 PC14, B1 PA12, B2 PA14, B3 PB3, B4 PB6, B5 PB8, B6 PC15, C1 PA10, C2 PA11, C3 PB1, C4 PB5, C5 BOOT0, C6 NRST, D1 PA9, D2 PB11, D3 PB0, D4 PA0, D5 VDDA, D6 VSS, E1 PA8, E2 PB10, E3 PA6, E4 PA4, E5 PA2, E6 VREF+, F1 VDD, F2 PB2, F3 PA7, F4 PA5, F5 PA3, F6 PA1

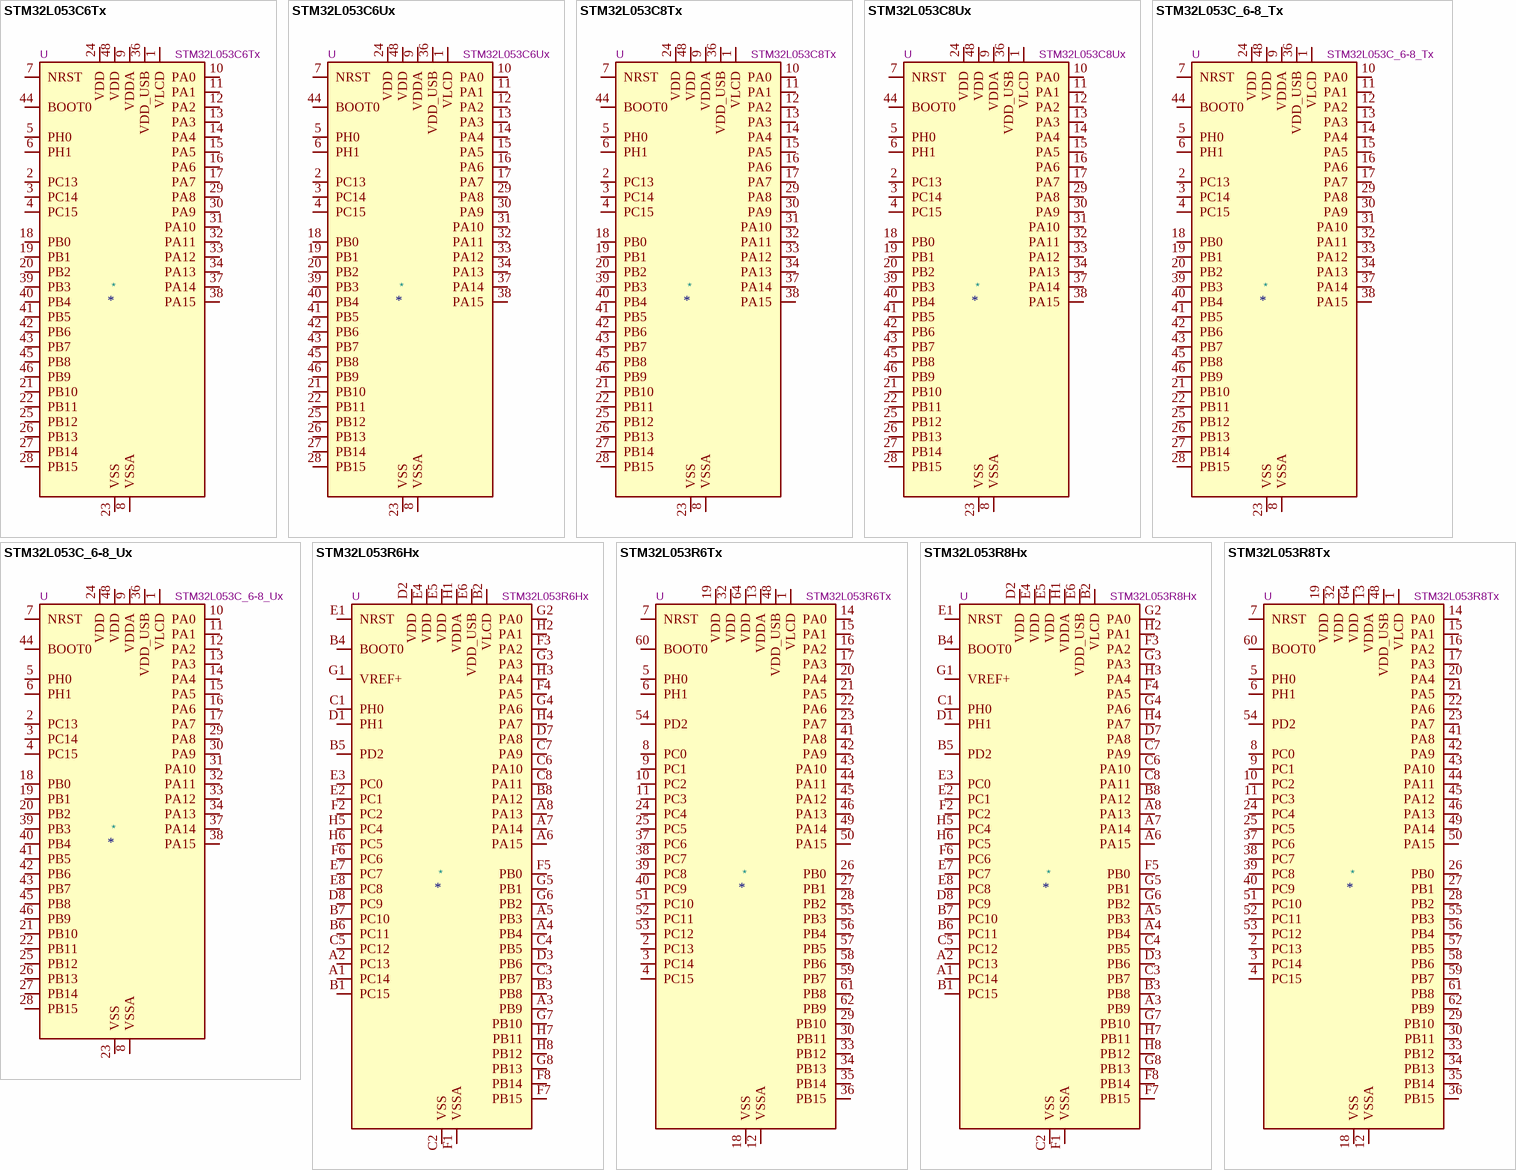
[diagram p7: symbols STM32L053C6Tx to STM32L053R8Tx]

## STM32L053C6Tx
designator *  value STM32L053C6Tx  Reference: U
ki_keywords: Arm Cortex-M0+ STM32L0 STM32L0x3; ki_description: STMicroelectronics Arm Cortex-M0+ MCU, 32KB flash, 8KB RAM, 32 MHz, 1.65-3.6V, 37 GPIO, LQFP48; ki_fp_filters: LQFP*7x7mm*P0.5mm*; Footprint: Package_QFP:LQFP-48_7x7mm_P0.5mm; Datasheet: https://www.st.com/resource/en/datasheet/stm32l053c6.pdf
pins: 1 VLCD, 2 PC13, 3 PC14, 4 PC15, 5 PH0, 6 PH1, 7 NRST, 8 VSSA, 9 VDDA, 10 PA0, 11 PA1, 12 PA2, 13 PA3, 14 PA4, 15 PA5, 16 PA6, 17 PA7, 18 PB0, 19 PB1, 20 PB2, 21 PB10, 22 PB11, 23 VSS, 24 VDD, 25 PB12, 26 PB13, 27 PB14, 28 PB15, 29 PA8, 30 PA9, 31 PA10, 32 PA11, 33 PA12, 34 PA13, 35 VSS hidden, 36 VDD_USB, 37 PA14, 38 PA15, 39 PB3, 40 PB4, 41 PB5, 42 PB6, 43 PB7, 44 BOOT0, 45 PB8, 46 PB9, 47 VSS hidden, 48 VDD

## STM32L053C6Ux
designator *  value STM32L053C6Ux  Reference: U
ki_keywords: Arm Cortex-M0+ STM32L0 STM32L0x3; ki_description: STMicroelectronics Arm Cortex-M0+ MCU, 32KB flash, 8KB RAM, 32 MHz, 1.65-3.6V, 37 GPIO, UFQFPN48; ki_fp_filters: QFN*1EP*7x7mm*P0.5mm*; Footprint: Package_DFN_QFN:QFN-48-1EP_7x7mm_P0.5mm_EP5.6x5.6mm; Datasheet: https://www.st.com/resource/en/datasheet/stm32l053c6.pdf
pins: 1 VLCD, 2 PC13, 3 PC14, 4 PC15, 5 PH0, 6 PH1, 7 NRST, 8 VSSA, 9 VDDA, 10 PA0, 11 PA1, 12 PA2, 13 PA3, 14 PA4, 15 PA5, 16 PA6, 17 PA7, 18 PB0, 19 PB1, 20 PB2, 21 PB10, 22 PB11, 23 VSS, 24 VDD, 25 PB12, 26 PB13, 27 PB14, 28 PB15, 29 PA8, 30 PA9, 31 PA10, 32 PA11, 33 PA12, 34 PA13, 35 VSS hidden, 36 VDD_USB, 37 PA14, 38 PA15, 39 PB3, 40 PB4, 41 PB5, 42 PB6, 43 PB7, 44 BOOT0, 45 PB8, 46 PB9, 47 VSS hidden, 48 VDD, 49 VSS hidden

## STM32L053C8Tx
designator *  value STM32L053C8Tx  Reference: U
ki_keywords: Arm Cortex-M0+ STM32L0 STM32L0x3; ki_description: STMicroelectronics Arm Cortex-M0+ MCU, 64KB flash, 8KB RAM, 32 MHz, 1.65-3.6V, 37 GPIO, LQFP48; ki_fp_filters: LQFP*7x7mm*P0.5mm*; Footprint: Package_QFP:LQFP-48_7x7mm_P0.5mm; Datasheet: https://www.st.com/resource/en/datasheet/stm32l053c8.pdf
pins: 1 VLCD, 2 PC13, 3 PC14, 4 PC15, 5 PH0, 6 PH1, 7 NRST, 8 VSSA, 9 VDDA, 10 PA0, 11 PA1, 12 PA2, 13 PA3, 14 PA4, 15 PA5, 16 PA6, 17 PA7, 18 PB0, 19 PB1, 20 PB2, 21 PB10, 22 PB11, 23 VSS, 24 VDD, 25 PB12, 26 PB13, 27 PB14, 28 PB15, 29 PA8, 30 PA9, 31 PA10, 32 PA11, 33 PA12, 34 PA13, 35 VSS hidden, 36 VDD_USB, 37 PA14, 38 PA15, 39 PB3, 40 PB4, 41 PB5, 42 PB6, 43 PB7, 44 BOOT0, 45 PB8, 46 PB9, 47 VSS hidden, 48 VDD

## STM32L053C8Ux
designator *  value STM32L053C8Ux  Reference: U
ki_keywords: Arm Cortex-M0+ STM32L0 STM32L0x3; ki_description: STMicroelectronics Arm Cortex-M0+ MCU, 64KB flash, 8KB RAM, 32 MHz, 1.65-3.6V, 37 GPIO, UFQFPN48; ki_fp_filters: QFN*1EP*7x7mm*P0.5mm*; Footprint: Package_DFN_QFN:QFN-48-1EP_7x7mm_P0.5mm_EP5.6x5.6mm; Datasheet: https://www.st.com/resource/en/datasheet/stm32l053c8.pdf
pins: 1 VLCD, 2 PC13, 3 PC14, 4 PC15, 5 PH0, 6 PH1, 7 NRST, 8 VSSA, 9 VDDA, 10 PA0, 11 PA1, 12 PA2, 13 PA3, 14 PA4, 15 PA5, 16 PA6, 17 PA7, 18 PB0, 19 PB1, 20 PB2, 21 PB10, 22 PB11, 23 VSS, 24 VDD, 25 PB12, 26 PB13, 27 PB14, 28 PB15, 29 PA8, 30 PA9, 31 PA10, 32 PA11, 33 PA12, 34 PA13, 35 VSS hidden, 36 VDD_USB, 37 PA14, 38 PA15, 39 PB3, 40 PB4, 41 PB5, 42 PB6, 43 PB7, 44 BOOT0, 45 PB8, 46 PB9, 47 VSS hidden, 48 VDD, 49 VSS hidden

## STM32L053C_6-8_Tx
designator *  value STM32L053C_6-8_Tx  Reference: U
ki_keywords: Arm Cortex-M0+ STM32L0 STM32L0x3; ki_description: STMicroelectronics Arm Cortex-M0+ MCU, 32-64KB flash, 8KB RAM, 32 MHz, 1.65-3.6V, 37 GPIO, LQFP48; ki_fp_filters: LQFP*7x7mm*P0.5mm*; Footprint: Package_QFP:LQFP-48_7x7mm_P0.5mm; Datasheet: https://www.st.com/resource/en/datasheet/stm32l053c6.pdf
pins: 1 VLCD, 2 PC13, 3 PC14, 4 PC15, 5 PH0, 6 PH1, 7 NRST, 8 VSSA, 9 VDDA, 10 PA0, 11 PA1, 12 PA2, 13 PA3, 14 PA4, 15 PA5, 16 PA6, 17 PA7, 18 PB0, 19 PB1, 20 PB2, 21 PB10, 22 PB11, 23 VSS, 24 VDD, 25 PB12, 26 PB13, 27 PB14, 28 PB15, 29 PA8, 30 PA9, 31 PA10, 32 PA11, 33 PA12, 34 PA13, 35 VSS hidden, 36 VDD_USB, 37 PA14, 38 PA15, 39 PB3, 40 PB4, 41 PB5, 42 PB6, 43 PB7, 44 BOOT0, 45 PB8, 46 PB9, 47 VSS hidden, 48 VDD

## STM32L053C_6-8_Ux
designator *  value STM32L053C_6-8_Ux  Reference: U
ki_keywords: Arm Cortex-M0+ STM32L0 STM32L0x3; ki_description: STMicroelectronics Arm Cortex-M0+ MCU, 32-64KB flash, 8KB RAM, 32 MHz, 1.65-3.6V, 37 GPIO, UFQFPN48; ki_fp_filters: QFN*1EP*7x7mm*P0.5mm*; Footprint: Package_DFN_QFN:QFN-48-1EP_7x7mm_P0.5mm_EP5.6x5.6mm; Datasheet: https://www.st.com/resource/en/datasheet/stm32l053c6.pdf
pins: 1 VLCD, 2 PC13, 3 PC14, 4 PC15, 5 PH0, 6 PH1, 7 NRST, 8 VSSA, 9 VDDA, 10 PA0, 11 PA1, 12 PA2, 13 PA3, 14 PA4, 15 PA5, 16 PA6, 17 PA7, 18 PB0, 19 PB1, 20 PB2, 21 PB10, 22 PB11, 23 VSS, 24 VDD, 25 PB12, 26 PB13, 27 PB14, 28 PB15, 29 PA8, 30 PA9, 31 PA10, 32 PA11, 33 PA12, 34 PA13, 35 VSS hidden, 36 VDD_USB, 37 PA14, 38 PA15, 39 PB3, 40 PB4, 41 PB5, 42 PB6, 43 PB7, 44 BOOT0, 45 PB8, 46 PB9, 47 VSS hidden, 48 VDD, 49 VSS hidden

## STM32L053R6Hx
designator *  value STM32L053R6Hx  Reference: U
ki_keywords: Arm Cortex-M0+ STM32L0 STM32L0x3; ki_description: STMicroelectronics Arm Cortex-M0+ MCU, 32KB flash, 8KB RAM, 32 MHz, 1.65-3.6V, 50 GPIO, TFBGA64; ki_fp_filters: TFBGA*5x5mm*Layout8x8*P0.5mm*; Footprint: Package_BGA:TFBGA-64_5x5mm_Layout8x8_P0.5mm; Datasheet: https://www.st.com/resource/en/datasheet/stm32l053r6.pdf
pins: A1 PC14, A2 PC13, A3 PB9, A4 PB4, A5 PB3, A6 PA15, A7 PA14, A8 PA13, B1 PC15, B2 VLCD, B3 PB8, B4 BOOT0, B5 PD2, B6 PC11, B7 PC10, B8 PA12, C1 PH0, C2 VSS, C3 PB7, C4 PB5, C5 PC12, C6 PA10, C7 PA9, C8 PA11, D1 PH1, D2 VDD, D3 PB6, D4 VSS hidden, D5 VSS hidden, D6 VSS hidden, D7 PA8, D8 PC9, E1 NRST, E2 PC1, E3 PC0, E4 VDD, E5 VDD, E6 VDD_USB, E7 PC7, E8 PC8, F1 VSSA, F2 PC2, F3 PA2, F4 PA5, F5 PB0, F6 PC6, F7 PB15, F8 PB14, G1 VREF+, G2 PA0, G3 PA3, G4 PA6, G5 PB1, G6 PB2, G7 PB10, G8 PB13, H1 VDDA, H2 PA1, H3 PA4, H4 PA7, H5 PC4, H6 PC5, H7 PB11, H8 PB12

## STM32L053R6Tx
designator *  value STM32L053R6Tx  Reference: U
ki_keywords: Arm Cortex-M0+ STM32L0 STM32L0x3; ki_description: STMicroelectronics Arm Cortex-M0+ MCU, 32KB flash, 8KB RAM, 32 MHz, 1.65-3.6V, 51 GPIO, LQFP64; ki_fp_filters: LQFP*10x10mm*P0.5mm*; Footprint: Package_QFP:LQFP-64_10x10mm_P0.5mm; Datasheet: https://www.st.com/resource/en/datasheet/stm32l053r6.pdf
pins: 1 VLCD, 2 PC13, 3 PC14, 4 PC15, 5 PH0, 6 PH1, 7 NRST, 8 PC0, 9 PC1, 10 PC2, 11 PC3, 12 VSSA, 13 VDDA, 14 PA0, 15 PA1, 16 PA2, 17 PA3, 18 VSS, 19 VDD, 20 PA4, 21 PA5, 22 PA6, 23 PA7, 24 PC4, 25 PC5, 26 PB0, 27 PB1, 28 PB2, 29 PB10, 30 PB11, 31 VSS hidden, 32 VDD, 33 PB12, 34 PB13, 35 PB14, 36 PB15, 37 PC6, 38 PC7, 39 PC8, 40 PC9, 41 PA8, 42 PA9, 43 PA10, 44 PA11, 45 PA12, 46 PA13, 47 VSS hidden, 48 VDD_USB, 49 PA14, 50 PA15, 51 PC10, 52 PC11, 53 PC12, 54 PD2, 55 PB3, 56 PB4, 57 PB5, 58 PB6, 59 PB7, 60 BOOT0, 61 PB8, 62 PB9, 63 VSS hidden, 64 VDD

## STM32L053R8Hx
designator *  value STM32L053R8Hx  Reference: U
ki_keywords: Arm Cortex-M0+ STM32L0 STM32L0x3; ki_description: STMicroelectronics Arm Cortex-M0+ MCU, 64KB flash, 8KB RAM, 32 MHz, 1.65-3.6V, 50 GPIO, TFBGA64; ki_fp_filters: TFBGA*5x5mm*Layout8x8*P0.5mm*; Footprint: Package_BGA:TFBGA-64_5x5mm_Layout8x8_P0.5mm; Datasheet: https://www.st.com/resource/en/datasheet/stm32l053r8.pdf
pins: A1 PC14, A2 PC13, A3 PB9, A4 PB4, A5 PB3, A6 PA15, A7 PA14, A8 PA13, B1 PC15, B2 VLCD, B3 PB8, B4 BOOT0, B5 PD2, B6 PC11, B7 PC10, B8 PA12, C1 PH0, C2 VSS, C3 PB7, C4 PB5, C5 PC12, C6 PA10, C7 PA9, C8 PA11, D1 PH1, D2 VDD, D3 PB6, D4 VSS hidden, D5 VSS hidden, D6 VSS hidden, D7 PA8, D8 PC9, E1 NRST, E2 PC1, E3 PC0, E4 VDD, E5 VDD, E6 VDD_USB, E7 PC7, E8 PC8, F1 VSSA, F2 PC2, F3 PA2, F4 PA5, F5 PB0, F6 PC6, F7 PB15, F8 PB14, G1 VREF+, G2 PA0, G3 PA3, G4 PA6, G5 PB1, G6 PB2, G7 PB10, G8 PB13, H1 VDDA, H2 PA1, H3 PA4, H4 PA7, H5 PC4, H6 PC5, H7 PB11, H8 PB12

## STM32L053R8Tx
designator *  value STM32L053R8Tx  Reference: U
ki_keywords: Arm Cortex-M0+ STM32L0 STM32L0x3; ki_description: STMicroelectronics Arm Cortex-M0+ MCU, 64KB flash, 8KB RAM, 32 MHz, 1.65-3.6V, 51 GPIO, LQFP64; ki_fp_filters: LQFP*10x10mm*P0.5mm*; Footprint: Package_QFP:LQFP-64_10x10mm_P0.5mm; Datasheet: https://www.st.com/resource/en/datasheet/stm32l053r8.pdf
pins: 1 VLCD, 2 PC13, 3 PC14, 4 PC15, 5 PH0, 6 PH1, 7 NRST, 8 PC0, 9 PC1, 10 PC2, 11 PC3, 12 VSSA, 13 VDDA, 14 PA0, 15 PA1, 16 PA2, 17 PA3, 18 VSS, 19 VDD, 20 PA4, 21 PA5, 22 PA6, 23 PA7, 24 PC4, 25 PC5, 26 PB0, 27 PB1, 28 PB2, 29 PB10, 30 PB11, 31 VSS hidden, 32 VDD, 33 PB12, 34 PB13, 35 PB14, 36 PB15, 37 PC6, 38 PC7, 39 PC8, 40 PC9, 41 PA8, 42 PA9, 43 PA10, 44 PA11, 45 PA12, 46 PA13, 47 VSS hidden, 48 VDD_USB, 49 PA14, 50 PA15, 51 PC10, 52 PC11, 53 PC12, 54 PD2, 55 PB3, 56 PB4, 57 PB5, 58 PB6, 59 PB7, 60 BOOT0, 61 PB8, 62 PB9, 63 VSS hidden, 64 VDD

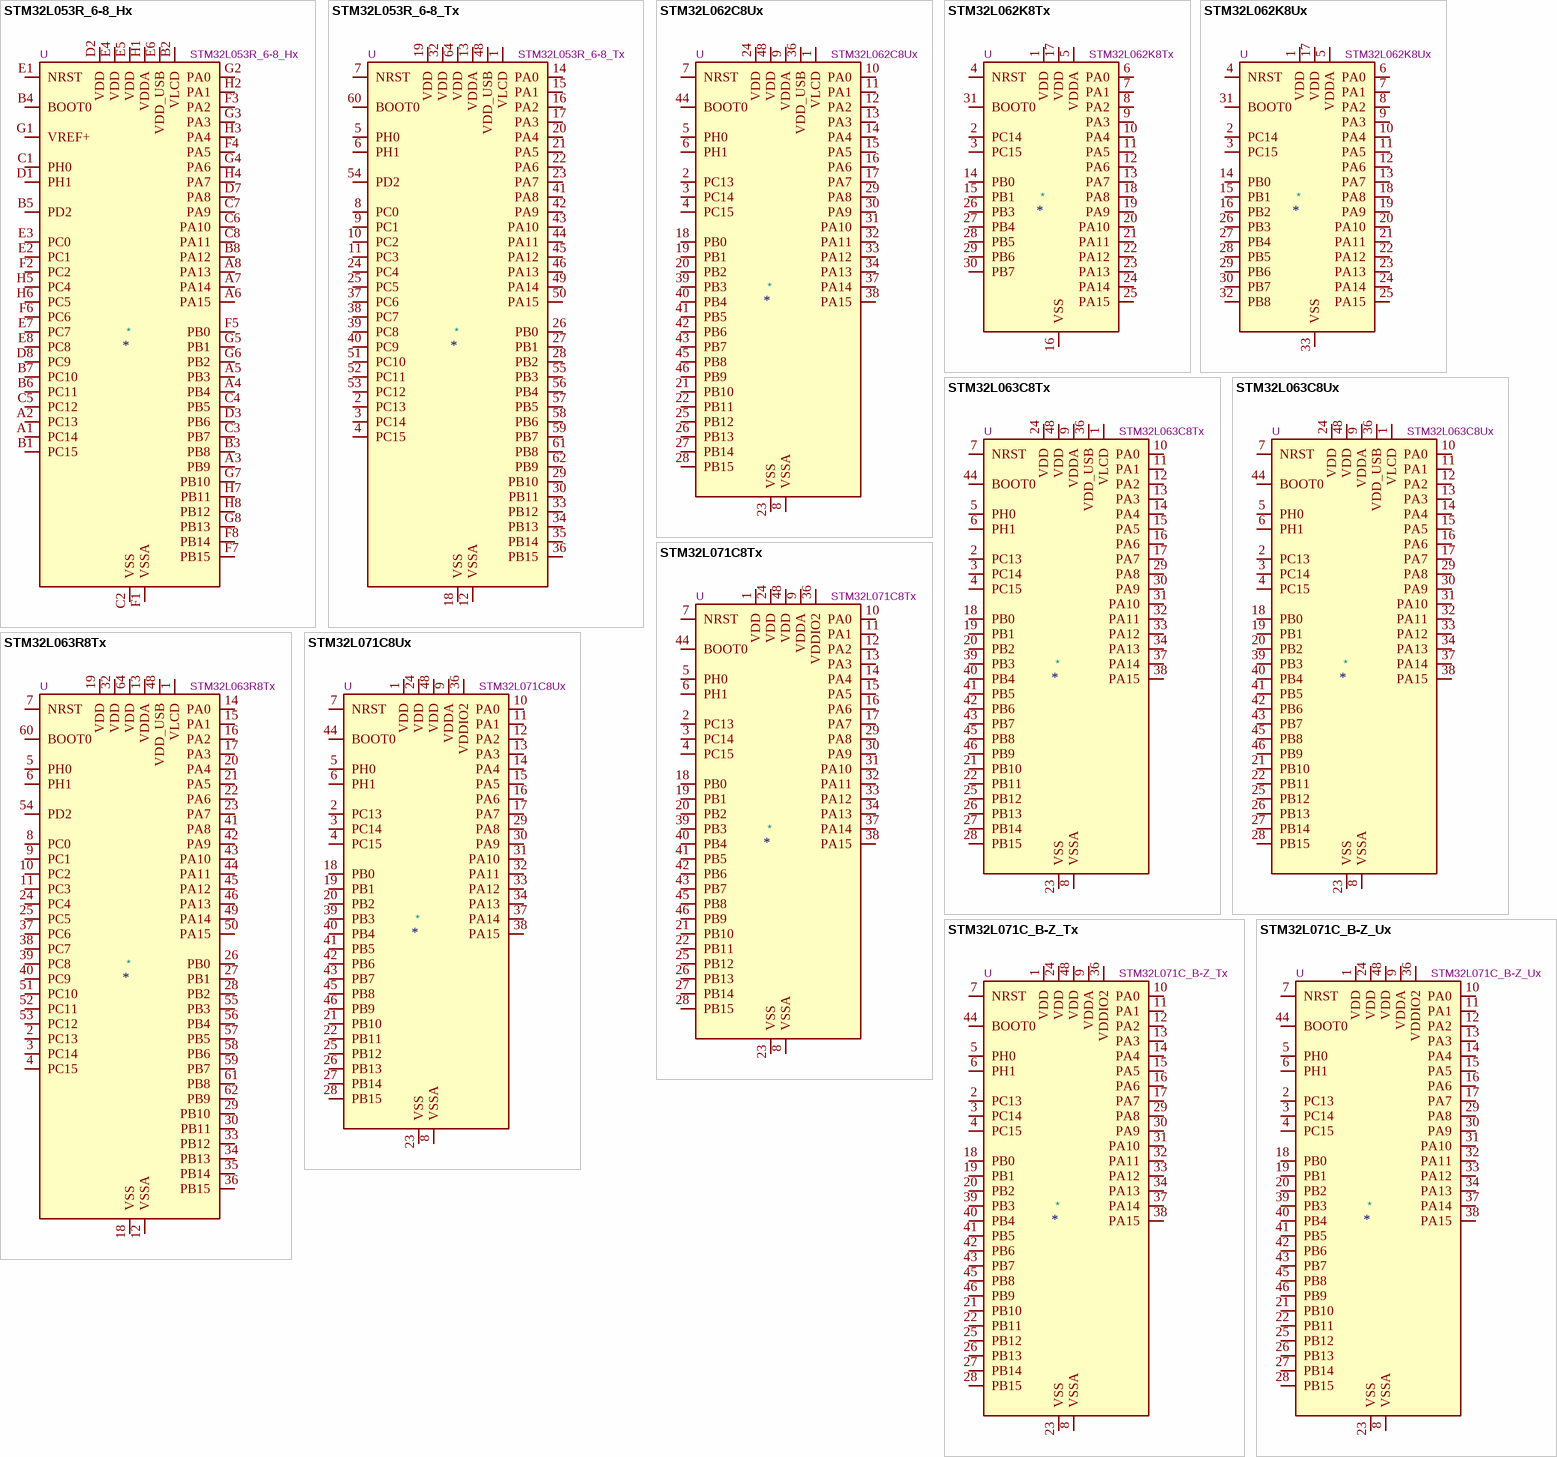
[diagram p8: symbols STM32L053R_6-8_Hx to STM32L071C_B-Z_Ux]

## STM32L053R_6-8_Hx
designator *  value STM32L053R_6-8_Hx  Reference: U
ki_keywords: Arm Cortex-M0+ STM32L0 STM32L0x3; ki_description: STMicroelectronics Arm Cortex-M0+ MCU, 32-64KB flash, 8KB RAM, 32 MHz, 1.65-3.6V, 50 GPIO, TFBGA64; ki_fp_filters: TFBGA*5x5mm*Layout8x8*P0.5mm*; Footprint: Package_BGA:TFBGA-64_5x5mm_Layout8x8_P0.5mm; Datasheet: https://www.st.com/resource/en/datasheet/stm32l053r6.pdf
pins: A1 PC14, A2 PC13, A3 PB9, A4 PB4, A5 PB3, A6 PA15, A7 PA14, A8 PA13, B1 PC15, B2 VLCD, B3 PB8, B4 BOOT0, B5 PD2, B6 PC11, B7 PC10, B8 PA12, C1 PH0, C2 VSS, C3 PB7, C4 PB5, C5 PC12, C6 PA10, C7 PA9, C8 PA11, D1 PH1, D2 VDD, D3 PB6, D4 VSS hidden, D5 VSS hidden, D6 VSS hidden, D7 PA8, D8 PC9, E1 NRST, E2 PC1, E3 PC0, E4 VDD, E5 VDD, E6 VDD_USB, E7 PC7, E8 PC8, F1 VSSA, F2 PC2, F3 PA2, F4 PA5, F5 PB0, F6 PC6, F7 PB15, F8 PB14, G1 VREF+, G2 PA0, G3 PA3, G4 PA6, G5 PB1, G6 PB2, G7 PB10, G8 PB13, H1 VDDA, H2 PA1, H3 PA4, H4 PA7, H5 PC4, H6 PC5, H7 PB11, H8 PB12

## STM32L053R_6-8_Tx
designator *  value STM32L053R_6-8_Tx  Reference: U
ki_keywords: Arm Cortex-M0+ STM32L0 STM32L0x3; ki_description: STMicroelectronics Arm Cortex-M0+ MCU, 32-64KB flash, 8KB RAM, 32 MHz, 1.65-3.6V, 51 GPIO, LQFP64; ki_fp_filters: LQFP*10x10mm*P0.5mm*; Footprint: Package_QFP:LQFP-64_10x10mm_P0.5mm; Datasheet: https://www.st.com/resource/en/datasheet/stm32l053r6.pdf
pins: 1 VLCD, 2 PC13, 3 PC14, 4 PC15, 5 PH0, 6 PH1, 7 NRST, 8 PC0, 9 PC1, 10 PC2, 11 PC3, 12 VSSA, 13 VDDA, 14 PA0, 15 PA1, 16 PA2, 17 PA3, 18 VSS, 19 VDD, 20 PA4, 21 PA5, 22 PA6, 23 PA7, 24 PC4, 25 PC5, 26 PB0, 27 PB1, 28 PB2, 29 PB10, 30 PB11, 31 VSS hidden, 32 VDD, 33 PB12, 34 PB13, 35 PB14, 36 PB15, 37 PC6, 38 PC7, 39 PC8, 40 PC9, 41 PA8, 42 PA9, 43 PA10, 44 PA11, 45 PA12, 46 PA13, 47 VSS hidden, 48 VDD_USB, 49 PA14, 50 PA15, 51 PC10, 52 PC11, 53 PC12, 54 PD2, 55 PB3, 56 PB4, 57 PB5, 58 PB6, 59 PB7, 60 BOOT0, 61 PB8, 62 PB9, 63 VSS hidden, 64 VDD

## STM32L062C8Ux
designator *  value STM32L062C8Ux  Reference: U
ki_keywords: Arm Cortex-M0+ STM32L0 STM32L0x2; ki_description: STMicroelectronics Arm Cortex-M0+ MCU, 64KB flash, 8KB RAM, 32 MHz, 1.65-3.6V, 37 GPIO, UFQFPN48; ki_fp_filters: QFN*1EP*7x7mm*P0.5mm*; Footprint: Package_DFN_QFN:QFN-48-1EP_7x7mm_P0.5mm_EP5.6x5.6mm; Datasheet: https://www.st.com/resource/en/datasheet/stm32l062c8.pdf
pins: 1 VLCD, 2 PC13, 3 PC14, 4 PC15, 5 PH0, 6 PH1, 7 NRST, 8 VSSA, 9 VDDA, 10 PA0, 11 PA1, 12 PA2, 13 PA3, 14 PA4, 15 PA5, 16 PA6, 17 PA7, 18 PB0, 19 PB1, 20 PB2, 21 PB10, 22 PB11, 23 VSS, 24 VDD, 25 PB12, 26 PB13, 27 PB14, 28 PB15, 29 PA8, 30 PA9, 31 PA10, 32 PA11, 33 PA12, 34 PA13, 35 VSS hidden, 36 VDD_USB, 37 PA14, 38 PA15, 39 PB3, 40 PB4, 41 PB5, 42 PB6, 43 PB7, 44 BOOT0, 45 PB8, 46 PB9, 47 VSS hidden, 48 VDD, 49 VSS hidden

## STM32L062K8Tx
designator *  value STM32L062K8Tx  Reference: U
ki_keywords: Arm Cortex-M0+ STM32L0 STM32L0x2; ki_description: STMicroelectronics Arm Cortex-M0+ MCU, 64KB flash, 8KB RAM, 32 MHz, 1.65-3.6V, 25 GPIO, LQFP32; ki_fp_filters: LQFP*7x7mm*P0.8mm*; Footprint: Package_QFP:LQFP-32_7x7mm_P0.8mm; Datasheet: https://www.st.com/resource/en/datasheet/stm32l062k8.pdf
pins: 1 VDD, 2 PC14, 3 PC15, 4 NRST, 5 VDDA, 6 PA0, 7 PA1, 8 PA2, 9 PA3, 10 PA4, 11 PA5, 12 PA6, 13 PA7, 14 PB0, 15 PB1, 16 VSS, 17 VDD, 18 PA8, 19 PA9, 20 PA10, 21 PA11, 22 PA12, 23 PA13, 24 PA14, 25 PA15, 26 PB3, 27 PB4, 28 PB5, 29 PB6, 30 PB7, 31 BOOT0, 32 VSS hidden

## STM32L062K8Ux
designator *  value STM32L062K8Ux  Reference: U
ki_keywords: Arm Cortex-M0+ STM32L0 STM32L0x2; ki_description: STMicroelectronics Arm Cortex-M0+ MCU, 64KB flash, 8KB RAM, 32 MHz, 1.65-3.6V, 27 GPIO, UFQFPN32; ki_fp_filters: QFN*1EP*5x5mm*P0.5mm*; Footprint: Package_DFN_QFN:QFN-32-1EP_5x5mm_P0.5mm_EP3.45x3.45mm; Datasheet: https://www.st.com/resource/en/datasheet/stm32l062k8.pdf
pins: 1 VDD, 2 PC14, 3 PC15, 4 NRST, 5 VDDA, 6 PA0, 7 PA1, 8 PA2, 9 PA3, 10 PA4, 11 PA5, 12 PA6, 13 PA7, 14 PB0, 15 PB1, 16 PB2, 17 VDD, 18 PA8, 19 PA9, 20 PA10, 21 PA11, 22 PA12, 23 PA13, 24 PA14, 25 PA15, 26 PB3, 27 PB4, 28 PB5, 29 PB6, 30 PB7, 31 BOOT0, 32 PB8, 33 VSS

## STM32L063C8Tx
designator *  value STM32L063C8Tx  Reference: U
ki_keywords: Arm Cortex-M0+ STM32L0 STM32L0x3; ki_description: STMicroelectronics Arm Cortex-M0+ MCU, 64KB flash, 8KB RAM, 32 MHz, 1.65-3.6V, 37 GPIO, LQFP48; ki_fp_filters: LQFP*7x7mm*P0.5mm*; Footprint: Package_QFP:LQFP-48_7x7mm_P0.5mm; Datasheet: https://www.st.com/resource/en/datasheet/stm32l063c8.pdf
pins: 1 VLCD, 2 PC13, 3 PC14, 4 PC15, 5 PH0, 6 PH1, 7 NRST, 8 VSSA, 9 VDDA, 10 PA0, 11 PA1, 12 PA2, 13 PA3, 14 PA4, 15 PA5, 16 PA6, 17 PA7, 18 PB0, 19 PB1, 20 PB2, 21 PB10, 22 PB11, 23 VSS, 24 VDD, 25 PB12, 26 PB13, 27 PB14, 28 PB15, 29 PA8, 30 PA9, 31 PA10, 32 PA11, 33 PA12, 34 PA13, 35 VSS hidden, 36 VDD_USB, 37 PA14, 38 PA15, 39 PB3, 40 PB4, 41 PB5, 42 PB6, 43 PB7, 44 BOOT0, 45 PB8, 46 PB9, 47 VSS hidden, 48 VDD

## STM32L063C8Ux
designator *  value STM32L063C8Ux  Reference: U
ki_keywords: Arm Cortex-M0+ STM32L0 STM32L0x3; ki_description: STMicroelectronics Arm Cortex-M0+ MCU, 64KB flash, 8KB RAM, 32 MHz, 1.65-3.6V, 37 GPIO, UFQFPN48; ki_fp_filters: QFN*1EP*7x7mm*P0.5mm*; Footprint: Package_DFN_QFN:QFN-48-1EP_7x7mm_P0.5mm_EP5.6x5.6mm; Datasheet: https://www.st.com/resource/en/datasheet/stm32l063c8.pdf
pins: 1 VLCD, 2 PC13, 3 PC14, 4 PC15, 5 PH0, 6 PH1, 7 NRST, 8 VSSA, 9 VDDA, 10 PA0, 11 PA1, 12 PA2, 13 PA3, 14 PA4, 15 PA5, 16 PA6, 17 PA7, 18 PB0, 19 PB1, 20 PB2, 21 PB10, 22 PB11, 23 VSS, 24 VDD, 25 PB12, 26 PB13, 27 PB14, 28 PB15, 29 PA8, 30 PA9, 31 PA10, 32 PA11, 33 PA12, 34 PA13, 35 VSS hidden, 36 VDD_USB, 37 PA14, 38 PA15, 39 PB3, 40 PB4, 41 PB5, 42 PB6, 43 PB7, 44 BOOT0, 45 PB8, 46 PB9, 47 VSS hidden, 48 VDD, 49 VSS hidden

## STM32L063R8Tx
designator *  value STM32L063R8Tx  Reference: U
ki_keywords: Arm Cortex-M0+ STM32L0 STM32L0x3; ki_description: STMicroelectronics Arm Cortex-M0+ MCU, 64KB flash, 8KB RAM, 32 MHz, 1.65-3.6V, 51 GPIO, LQFP64; ki_fp_filters: LQFP*10x10mm*P0.5mm*; Footprint: Package_QFP:LQFP-64_10x10mm_P0.5mm; Datasheet: https://www.st.com/resource/en/datasheet/stm32l063r8.pdf
pins: 1 VLCD, 2 PC13, 3 PC14, 4 PC15, 5 PH0, 6 PH1, 7 NRST, 8 PC0, 9 PC1, 10 PC2, 11 PC3, 12 VSSA, 13 VDDA, 14 PA0, 15 PA1, 16 PA2, 17 PA3, 18 VSS, 19 VDD, 20 PA4, 21 PA5, 22 PA6, 23 PA7, 24 PC4, 25 PC5, 26 PB0, 27 PB1, 28 PB2, 29 PB10, 30 PB11, 31 VSS hidden, 32 VDD, 33 PB12, 34 PB13, 35 PB14, 36 PB15, 37 PC6, 38 PC7, 39 PC8, 40 PC9, 41 PA8, 42 PA9, 43 PA10, 44 PA11, 45 PA12, 46 PA13, 47 VSS hidden, 48 VDD_USB, 49 PA14, 50 PA15, 51 PC10, 52 PC11, 53 PC12, 54 PD2, 55 PB3, 56 PB4, 57 PB5, 58 PB6, 59 PB7, 60 BOOT0, 61 PB8, 62 PB9, 63 VSS hidden, 64 VDD

## STM32L071C8Tx
designator *  value STM32L071C8Tx  Reference: U
ki_keywords: Arm Cortex-M0+ STM32L0 STM32L0x1; ki_description: STMicroelectronics Arm Cortex-M0+ MCU, 64KB flash, 20KB RAM, 32 MHz, 1.65-3.6V, 37 GPIO, LQFP48; ki_fp_filters: LQFP*7x7mm*P0.5mm*; Footprint: Package_QFP:LQFP-48_7x7mm_P0.5mm; Datasheet: https://www.st.com/resource/en/datasheet/stm32l071c8.pdf
pins: 1 VDD, 2 PC13, 3 PC14, 4 PC15, 5 PH0, 6 PH1, 7 NRST, 8 VSSA, 9 VDDA, 10 PA0, 11 PA1, 12 PA2, 13 PA3, 14 PA4, 15 PA5, 16 PA6, 17 PA7, 18 PB0, 19 PB1, 20 PB2, 21 PB10, 22 PB11, 23 VSS, 24 VDD, 25 PB12, 26 PB13, 27 PB14, 28 PB15, 29 PA8, 30 PA9, 31 PA10, 32 PA11, 33 PA12, 34 PA13, 35 VSS hidden, 36 VDDIO2, 37 PA14, 38 PA15, 39 PB3, 40 PB4, 41 PB5, 42 PB6, 43 PB7, 44 BOOT0, 45 PB8, 46 PB9, 47 VSS hidden, 48 VDD

## STM32L071C8Ux
designator *  value STM32L071C8Ux  Reference: U
ki_keywords: Arm Cortex-M0+ STM32L0 STM32L0x1; ki_description: STMicroelectronics Arm Cortex-M0+ MCU, 64KB flash, 20KB RAM, 32 MHz, 1.65-3.6V, 37 GPIO, UFQFPN48; ki_fp_filters: QFN*1EP*7x7mm*P0.5mm*; Footprint: Package_DFN_QFN:QFN-48-1EP_7x7mm_P0.5mm_EP5.6x5.6mm; Datasheet: https://www.st.com/resource/en/datasheet/stm32l071c8.pdf
pins: 1 VDD, 2 PC13, 3 PC14, 4 PC15, 5 PH0, 6 PH1, 7 NRST, 8 VSSA, 9 VDDA, 10 PA0, 11 PA1, 12 PA2, 13 PA3, 14 PA4, 15 PA5, 16 PA6, 17 PA7, 18 PB0, 19 PB1, 20 PB2, 21 PB10, 22 PB11, 23 VSS, 24 VDD, 25 PB12, 26 PB13, 27 PB14, 28 PB15, 29 PA8, 30 PA9, 31 PA10, 32 PA11, 33 PA12, 34 PA13, 35 VSS hidden, 36 VDDIO2, 37 PA14, 38 PA15, 39 PB3, 40 PB4, 41 PB5, 42 PB6, 43 PB7, 44 BOOT0, 45 PB8, 46 PB9, 47 VSS hidden, 48 VDD, 49 VSS hidden

## STM32L071C_B-Z_Tx
designator *  value STM32L071C_B-Z_Tx  Reference: U
ki_keywords: Arm Cortex-M0+ STM32L0 STM32L0x1; ki_description: STMicroelectronics Arm Cortex-M0+ MCU, 128-192KB flash, 20KB RAM, 32 MHz, 1.65-3.6V, 37 GPIO, LQFP48; ki_fp_filters: LQFP*7x7mm*P0.5mm*; Footprint: Package_QFP:LQFP-48_7x7mm_P0.5mm; Datasheet: https://www.st.com/resource/en/datasheet/stm32l071cb.pdf
pins: 1 VDD, 2 PC13, 3 PC14, 4 PC15, 5 PH0, 6 PH1, 7 NRST, 8 VSSA, 9 VDDA, 10 PA0, 11 PA1, 12 PA2, 13 PA3, 14 PA4, 15 PA5, 16 PA6, 17 PA7, 18 PB0, 19 PB1, 20 PB2, 21 PB10, 22 PB11, 23 VSS, 24 VDD, 25 PB12, 26 PB13, 27 PB14, 28 PB15, 29 PA8, 30 PA9, 31 PA10, 32 PA11, 33 PA12, 34 PA13, 35 VSS hidden, 36 VDDIO2, 37 PA14, 38 PA15, 39 PB3, 40 PB4, 41 PB5, 42 PB6, 43 PB7, 44 BOOT0, 45 PB8, 46 PB9, 47 VSS hidden, 48 VDD

## STM32L071C_B-Z_Ux
designator *  value STM32L071C_B-Z_Ux  Reference: U
ki_keywords: Arm Cortex-M0+ STM32L0 STM32L0x1; ki_description: STMicroelectronics Arm Cortex-M0+ MCU, 128-192KB flash, 20KB RAM, 32 MHz, 1.65-3.6V, 37 GPIO, UFQFPN48; ki_fp_filters: QFN*1EP*7x7mm*P0.5mm*; Footprint: Package_DFN_QFN:QFN-48-1EP_7x7mm_P0.5mm_EP5.6x5.6mm; Datasheet: https://www.st.com/resource/en/datasheet/stm32l071cb.pdf
pins: 1 VDD, 2 PC13, 3 PC14, 4 PC15, 5 PH0, 6 PH1, 7 NRST, 8 VSSA, 9 VDDA, 10 PA0, 11 PA1, 12 PA2, 13 PA3, 14 PA4, 15 PA5, 16 PA6, 17 PA7, 18 PB0, 19 PB1, 20 PB2, 21 PB10, 22 PB11, 23 VSS, 24 VDD, 25 PB12, 26 PB13, 27 PB14, 28 PB15, 29 PA8, 30 PA9, 31 PA10, 32 PA11, 33 PA12, 34 PA13, 35 VSS hidden, 36 VDDIO2, 37 PA14, 38 PA15, 39 PB3, 40 PB4, 41 PB5, 42 PB6, 43 PB7, 44 BOOT0, 45 PB8, 46 PB9, 47 VSS hidden, 48 VDD, 49 VSS hidden

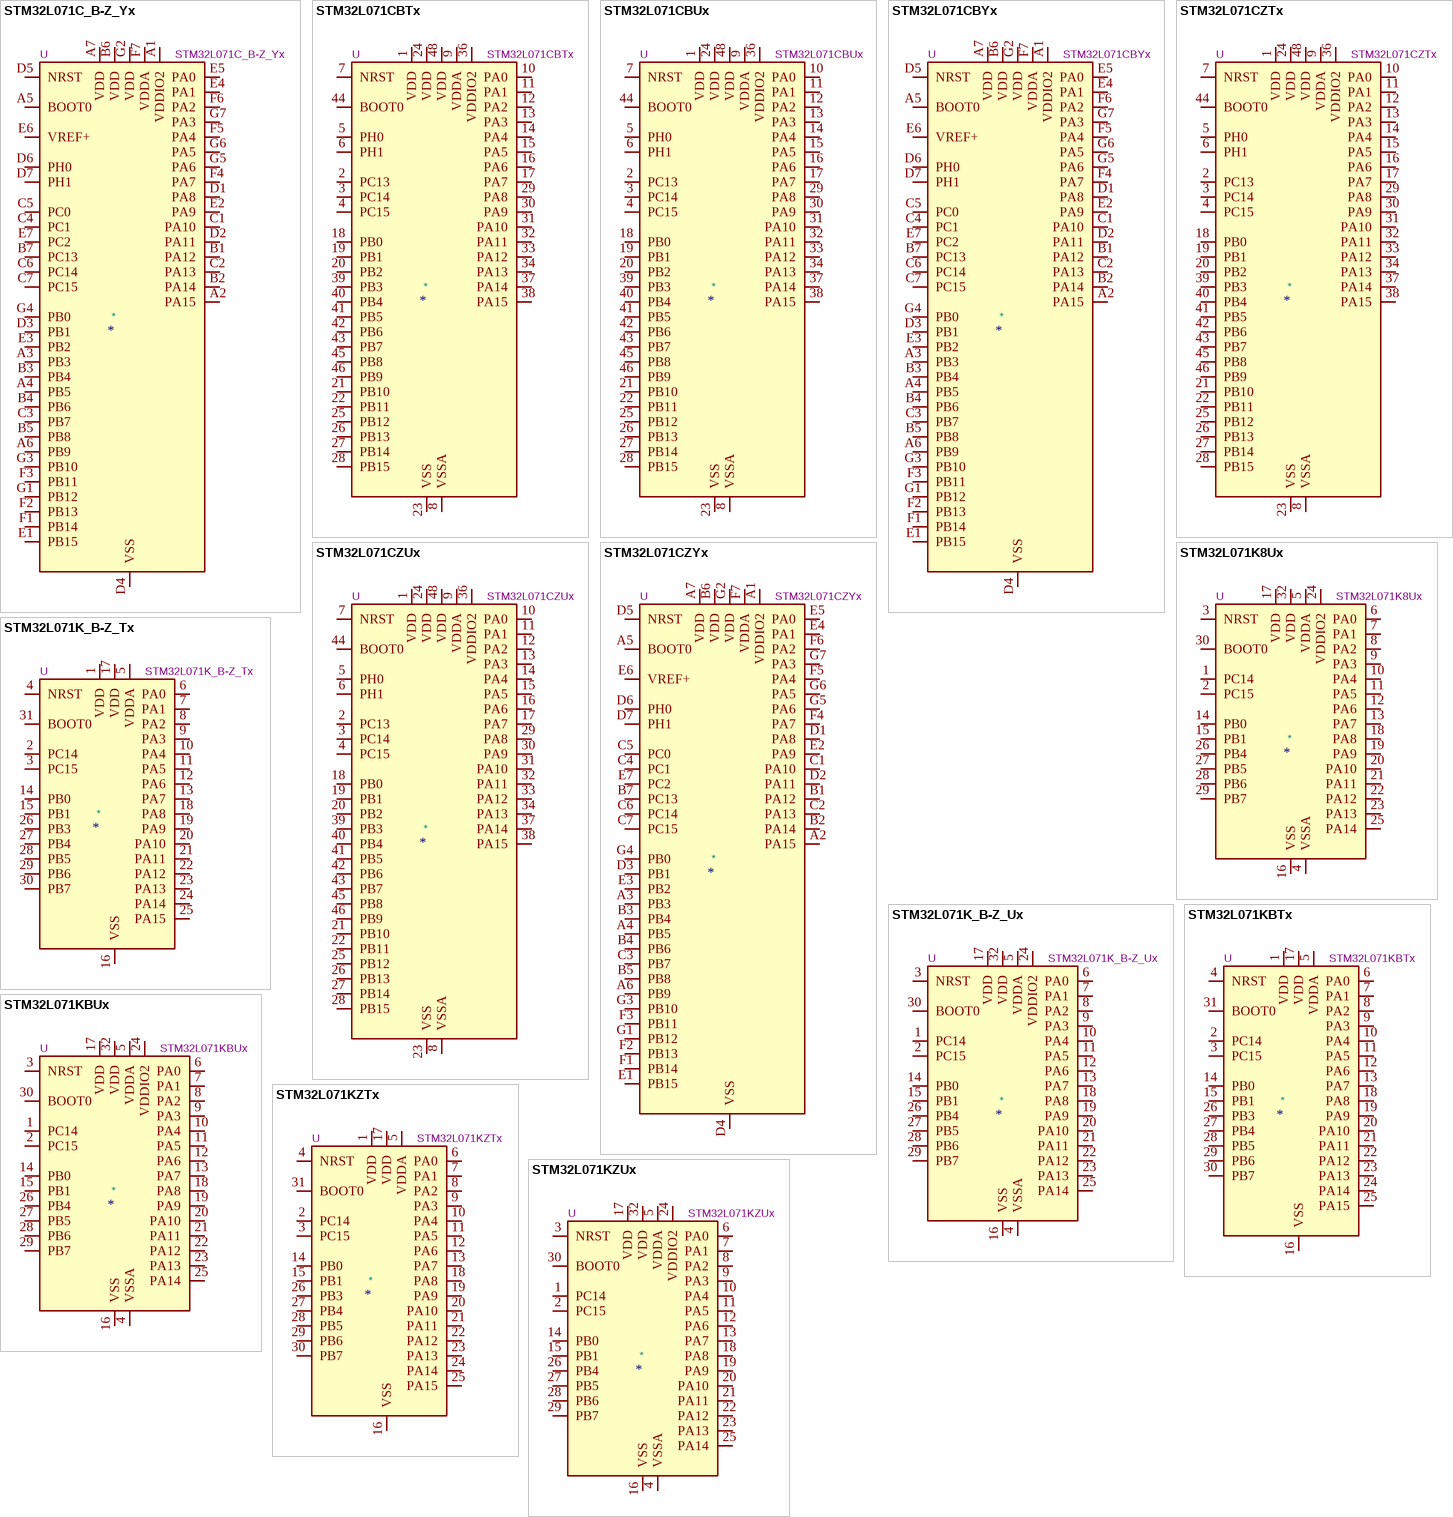
[diagram p9: symbols STM32L071C_B-Z_Yx to STM32L071KZUx]

## STM32L071C_B-Z_Yx
designator *  value STM32L071C_B-Z_Yx  Reference: U
ki_keywords: Arm Cortex-M0+ STM32L0 STM32L0x1; ki_description: STMicroelectronics Arm Cortex-M0+ MCU, 128-192KB flash, 20KB RAM, 32 MHz, 1.65-3.6V, 40 GPIO, WLCSP49; ki_fp_filters: ST*WLCSP*Die447*; Footprint: Package_CSP:ST_WLCSP-49_Die447; Datasheet: https://www.st.com/resource/en/datasheet/stm32l071cb.pdf
pins: A1 VDDIO2, A2 PA15, A3 PB3, A4 PB5, A5 BOOT0, A6 PB9, A7 VDD, B1 PA12, B2 PA14, B3 PB4, B4 PB6, B5 PB8, B6 VDD, B7 PC13, C1 PA10, C2 PA13, C3 PB7, C4 PC1, C5 PC0, C6 PC14, C7 PC15, D1 PA8, D2 PA11, D3 PB1, D4 VSS, D5 NRST, D6 PH0, D7 PH1, E1 PB15, E2 PA9, E3 PB2, E4 PA1, E5 PA0, E6 VREF+, E7 PC2, F1 PB14, F2 PB13, F3 PB11, F4 PA7, F5 PA4, F6 PA2, F7 VDDA, G1 PB12, G2 VDD, G3 PB10, G4 PB0, G5 PA6, G6 PA5, G7 PA3

## STM32L071CBTx
designator *  value STM32L071CBTx  Reference: U
ki_keywords: Arm Cortex-M0+ STM32L0 STM32L0x1; ki_description: STMicroelectronics Arm Cortex-M0+ MCU, 128KB flash, 20KB RAM, 32 MHz, 1.65-3.6V, 37 GPIO, LQFP48; ki_fp_filters: LQFP*7x7mm*P0.5mm*; Footprint: Package_QFP:LQFP-48_7x7mm_P0.5mm; Datasheet: https://www.st.com/resource/en/datasheet/stm32l071cb.pdf
pins: 1 VDD, 2 PC13, 3 PC14, 4 PC15, 5 PH0, 6 PH1, 7 NRST, 8 VSSA, 9 VDDA, 10 PA0, 11 PA1, 12 PA2, 13 PA3, 14 PA4, 15 PA5, 16 PA6, 17 PA7, 18 PB0, 19 PB1, 20 PB2, 21 PB10, 22 PB11, 23 VSS, 24 VDD, 25 PB12, 26 PB13, 27 PB14, 28 PB15, 29 PA8, 30 PA9, 31 PA10, 32 PA11, 33 PA12, 34 PA13, 35 VSS hidden, 36 VDDIO2, 37 PA14, 38 PA15, 39 PB3, 40 PB4, 41 PB5, 42 PB6, 43 PB7, 44 BOOT0, 45 PB8, 46 PB9, 47 VSS hidden, 48 VDD

## STM32L071CBUx
designator *  value STM32L071CBUx  Reference: U
ki_keywords: Arm Cortex-M0+ STM32L0 STM32L0x1; ki_description: STMicroelectronics Arm Cortex-M0+ MCU, 128KB flash, 20KB RAM, 32 MHz, 1.65-3.6V, 37 GPIO, UFQFPN48; ki_fp_filters: QFN*1EP*7x7mm*P0.5mm*; Footprint: Package_DFN_QFN:QFN-48-1EP_7x7mm_P0.5mm_EP5.6x5.6mm; Datasheet: https://www.st.com/resource/en/datasheet/stm32l071cb.pdf
pins: 1 VDD, 2 PC13, 3 PC14, 4 PC15, 5 PH0, 6 PH1, 7 NRST, 8 VSSA, 9 VDDA, 10 PA0, 11 PA1, 12 PA2, 13 PA3, 14 PA4, 15 PA5, 16 PA6, 17 PA7, 18 PB0, 19 PB1, 20 PB2, 21 PB10, 22 PB11, 23 VSS, 24 VDD, 25 PB12, 26 PB13, 27 PB14, 28 PB15, 29 PA8, 30 PA9, 31 PA10, 32 PA11, 33 PA12, 34 PA13, 35 VSS hidden, 36 VDDIO2, 37 PA14, 38 PA15, 39 PB3, 40 PB4, 41 PB5, 42 PB6, 43 PB7, 44 BOOT0, 45 PB8, 46 PB9, 47 VSS hidden, 48 VDD, 49 VSS hidden

## STM32L071CBYx
designator *  value STM32L071CBYx  Reference: U
ki_keywords: Arm Cortex-M0+ STM32L0 STM32L0x1; ki_description: STMicroelectronics Arm Cortex-M0+ MCU, 128KB flash, 20KB RAM, 32 MHz, 1.65-3.6V, 40 GPIO, WLCSP49; ki_fp_filters: ST*WLCSP*Die447*; Footprint: Package_CSP:ST_WLCSP-49_Die447; Datasheet: https://www.st.com/resource/en/datasheet/stm32l071cb.pdf
pins: A1 VDDIO2, A2 PA15, A3 PB3, A4 PB5, A5 BOOT0, A6 PB9, A7 VDD, B1 PA12, B2 PA14, B3 PB4, B4 PB6, B5 PB8, B6 VDD, B7 PC13, C1 PA10, C2 PA13, C3 PB7, C4 PC1, C5 PC0, C6 PC14, C7 PC15, D1 PA8, D2 PA11, D3 PB1, D4 VSS, D5 NRST, D6 PH0, D7 PH1, E1 PB15, E2 PA9, E3 PB2, E4 PA1, E5 PA0, E6 VREF+, E7 PC2, F1 PB14, F2 PB13, F3 PB11, F4 PA7, F5 PA4, F6 PA2, F7 VDDA, G1 PB12, G2 VDD, G3 PB10, G4 PB0, G5 PA6, G6 PA5, G7 PA3

## STM32L071CZTx
designator *  value STM32L071CZTx  Reference: U
ki_keywords: Arm Cortex-M0+ STM32L0 STM32L0x1; ki_description: STMicroelectronics Arm Cortex-M0+ MCU, 192KB flash, 20KB RAM, 32 MHz, 1.65-3.6V, 37 GPIO, LQFP48; ki_fp_filters: LQFP*7x7mm*P0.5mm*; Footprint: Package_QFP:LQFP-48_7x7mm_P0.5mm; Datasheet: https://www.st.com/resource/en/datasheet/stm32l071cz.pdf
pins: 1 VDD, 2 PC13, 3 PC14, 4 PC15, 5 PH0, 6 PH1, 7 NRST, 8 VSSA, 9 VDDA, 10 PA0, 11 PA1, 12 PA2, 13 PA3, 14 PA4, 15 PA5, 16 PA6, 17 PA7, 18 PB0, 19 PB1, 20 PB2, 21 PB10, 22 PB11, 23 VSS, 24 VDD, 25 PB12, 26 PB13, 27 PB14, 28 PB15, 29 PA8, 30 PA9, 31 PA10, 32 PA11, 33 PA12, 34 PA13, 35 VSS hidden, 36 VDDIO2, 37 PA14, 38 PA15, 39 PB3, 40 PB4, 41 PB5, 42 PB6, 43 PB7, 44 BOOT0, 45 PB8, 46 PB9, 47 VSS hidden, 48 VDD